# Altium integrated library Motorola Microcontroller 8-Bit.IntLib: 909 symbols (part 29 of 31)
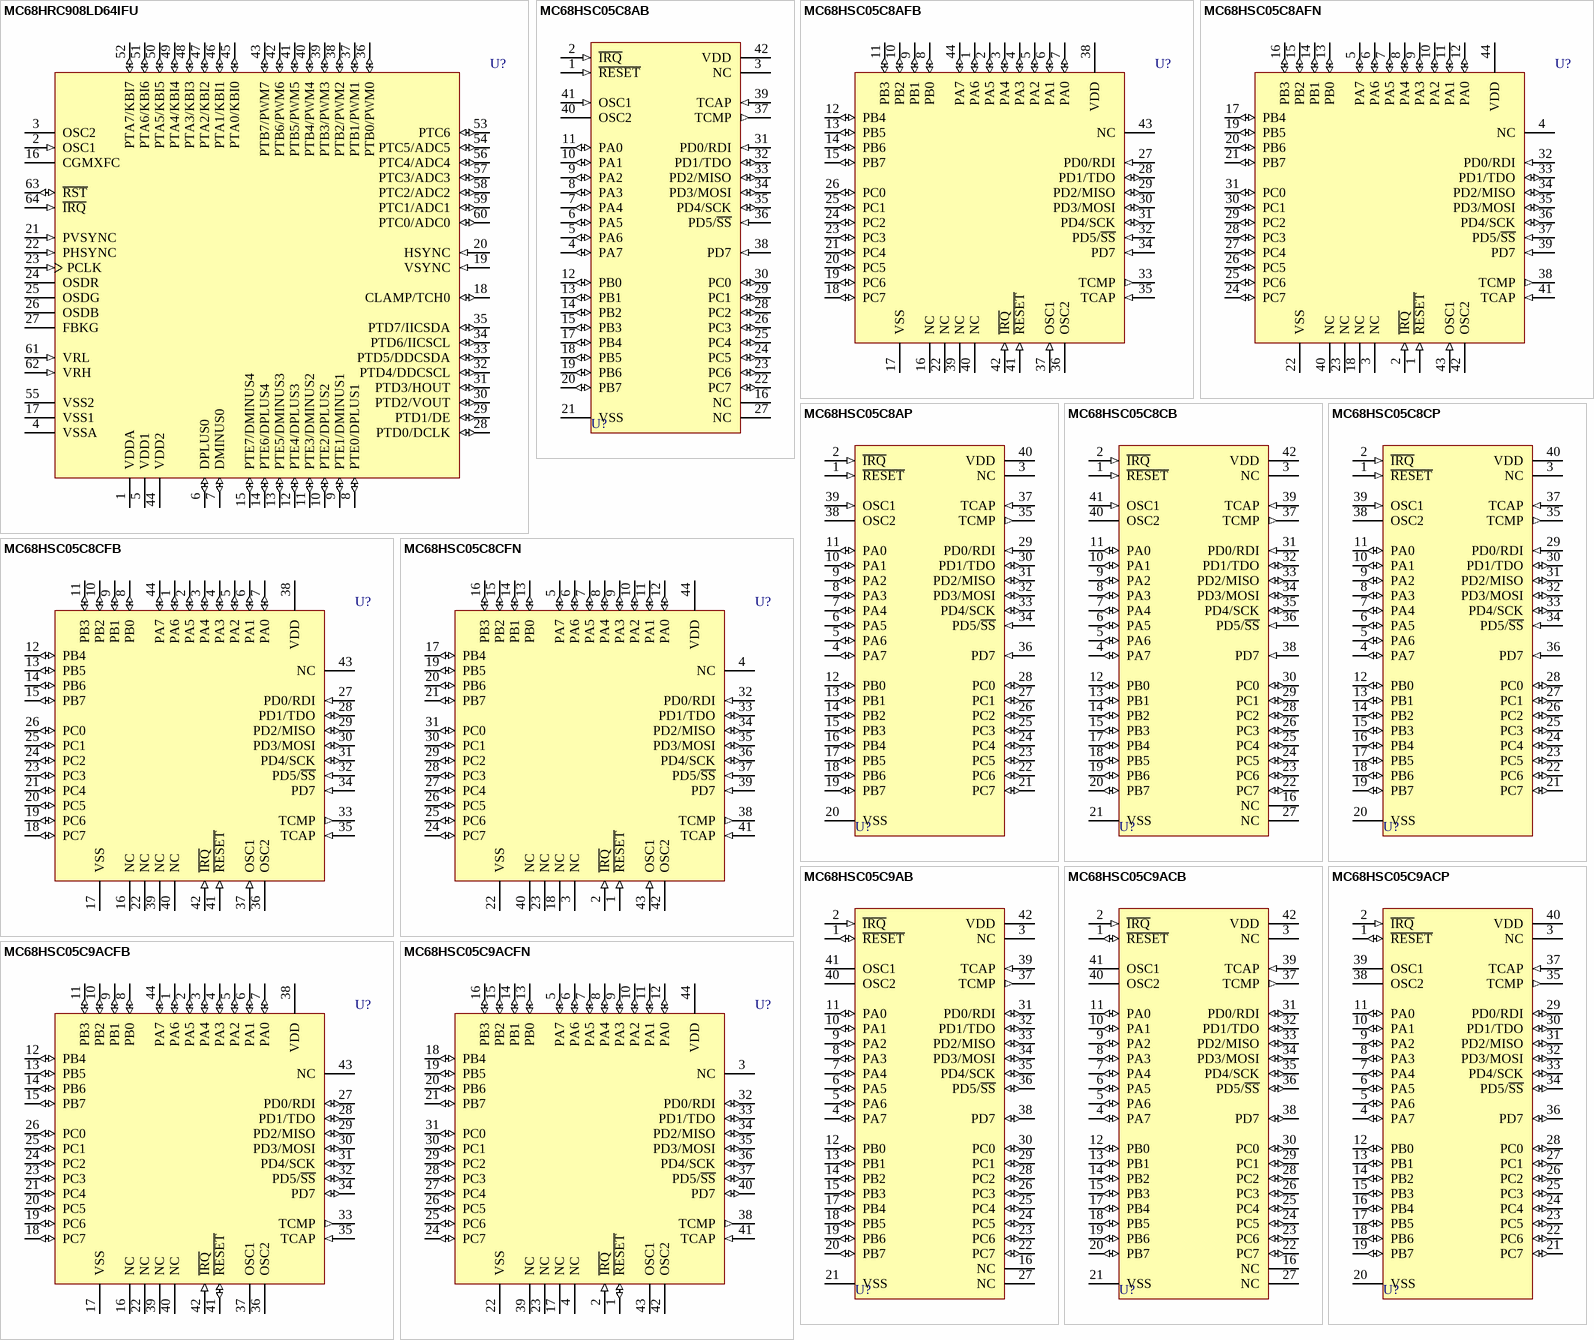
[diagram p141: symbols MC68HRC908LD64IFU to MC68HSC05C9ACP]

## MC68HSC05C9ACP
designator U?
8-Bit Microcontroller; Note: If MC68HC705C9A devices are to be used in the same socket, pin 3 should be tied to VDD.; Published: 17-Jan-2003; LatestRevisionDate: 06-Jun-2005; LatestRevisionNote: Stylized 3D Model Added.; DatasheetVersion: Rev 5, 2000; PackageReference: 711-03; Publisher: Altium Limited; PackageDescription: DIP; 40 Leads; Row Spacing 15.24 mm; Pitch 2.54 mm; ComponentLink1Description: Manufacturer Link; ComponentLink1URL: http://www.freescale.com/; ComponentLink2Description: Datasheet; ComponentLink2URL: http://www.freescale.com/files/microcontrollers/doc/data_sheet/MC68HC05C9A.pdf
footprint 711-03 (DIP; 40 Leads; Row Spacing 15.24 mm; Pitch 2.54 mm)
3D model 711-03 (DIP; 40 Leads; Row Spacing 15.24 mm; Pitch 2.54 mm)
pins: 1 ~{RESET} (io), 2 ~{IRQ} (in), 3 NC, 4 PA7 (io), 5 PA6 (io), 6 PA5 (io), 7 PA4 (io), 8 PA3 (io), 9 PA2 (io), 10 PA1 (io), 11 PA0 (io), 12 PB0 (io), 13 PB1 (io), 14 PB2 (io), 15 PB3 (io), 16 PB4 (io), 17 PB5 (io), 18 PB6 (io), 19 PB7 (io), 20 VSS (power), 21 PC7 (io), 22 PC6 (io), 23 PC5 (io), 24 PC4 (io), 25 PC3 (io), 26 PC2 (io), 27 PC1 (io), 28 PC0 (io), 29 PD0/RDI (io), 30 PD1/TDO (io), 31 PD2/MISO (io), 32 PD3/MOSI (io), 33 PD4/SCK (io), 34 PD5/~{SS} (io), 35 TCMP (out), 36 PD7 (io), 37 TCAP (in), 38 OSC2, 39 OSC1, 40 VDD (power)

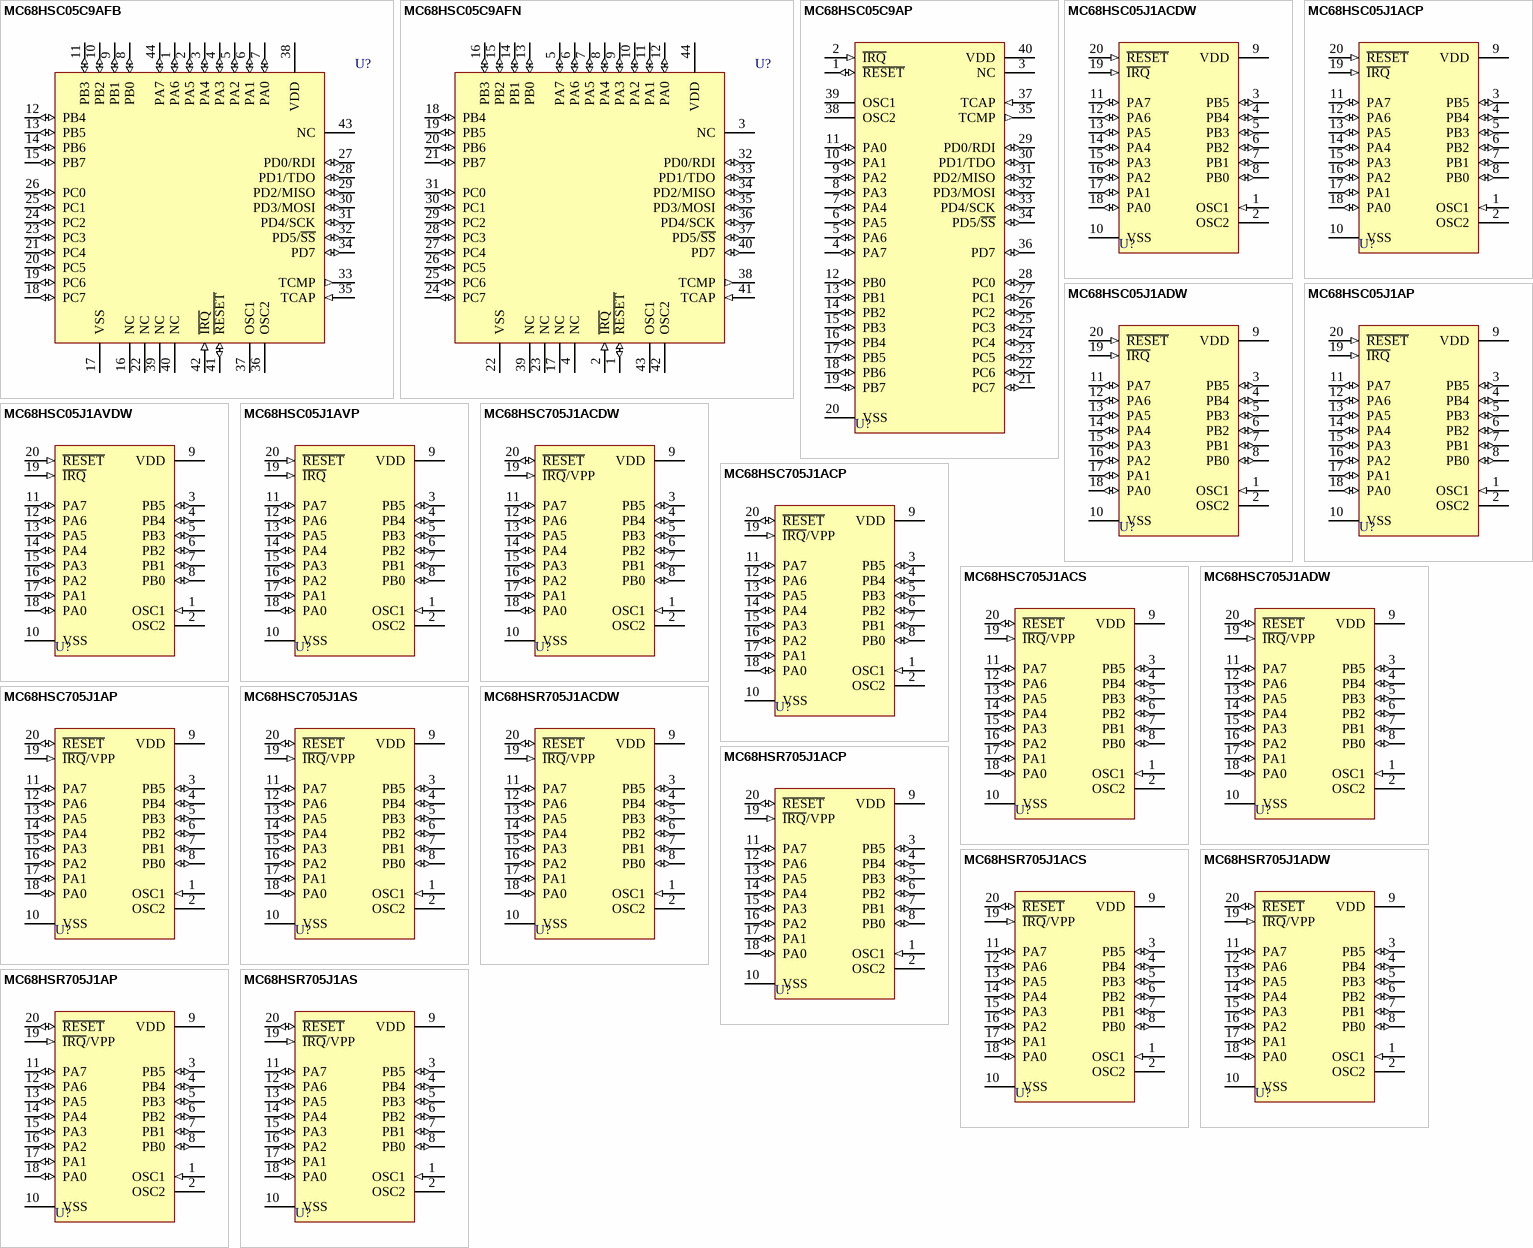
[diagram p102: symbols MC68HSC05C9AFB to MC68HSR705J1AS]

## MC68HSC05C9AFB
designator U?
8-Bit Microcontroller; Note: If MC68HC705C9A devices are to be used in the same socket, pin 43 should be tied to VDD.; Published: 17-Jan-2003; LatestRevisionDate: 13-Apr-2006; LatestRevisionNote: IPC-7351 Footprint Added.; DatasheetVersion: Rev 5, 2000; PackageVersion: rev5, Apr-2002; PackageReference: 824A-01; Publisher: Altium Limited; PackageDescription: 44-Pin Quad Flat Pack 0.8 mm Pitch; Code_JEDEC: MS-022-AB; Code_IPC: QFP80P1320X1320-44; ComponentLink1Description: Manufacturer Link; ComponentLink1URL: http://www.freescale.com/; ComponentLink2Description: Datasheet; ComponentLink2URL: http://www.freescale.com/files/microcontrollers/doc/data_sheet/MC68HC05C9A.pdf
footprint 824A-01_N (QFP, 44-Leads, Body 10x10mm, Pitch 0.8mm, IPC Medium Density)
footprint 824A-01_L (QFP, 44-Leads, Body 10x10mm, Pitch 0.8mm, IPC High Density)
footprint 824A-01_M (QFP, 44-Leads, Body 10x10mm, Pitch 0.8mm, IPC Low Density)
3D model MC68HSC05-824A-01 (44-Pin Quad Flat Pack 0.8 mm Pitch)
pins: 1 PA6 (io), 2 PA5 (io), 3 PA4 (io), 4 PA3 (io), 5 PA2 (io), 6 PA1 (io), 7 PA0 (io), 8 PB0 (io), 9 PB1 (io), 10 PB2 (io), 11 PB3 (io), 12 PB4 (io), 13 PB5 (io), 14 PB6 (io), 15 PB7 (io), 16 NC, 17 VSS (power), 18 PC7 (io), 19 PC6 (io), 20 PC5 (io), 21 PC4 (io), 22 NC, 23 PC3 (io), 24 PC2 (io), 25 PC1 (io), 26 PC0 (io), 27 PD0/RDI (io), 28 PD1/TDO (io), 29 PD2/MISO (io), 30 PD3/MOSI (io), 31 PD4/SCK (io), 32 PD5/~{SS} (io), 33 TCMP (out), 34 PD7 (io), 35 TCAP (in), 36 OSC2, 37 OSC1, 38 VDD (power), 39 NC, 40 NC, 41 ~{RESET} (io), 42 ~{IRQ} (in), 43 NC, 44 PA7 (io)

## MC68HSC05C9AFN
designator U?
8-Bit Microcontroller; Note: If MC68HC705C9A devices are to be used in the same socket, pin 3 should be tied to VDD.; Note: For compatibility with MC68HC05C4A/C8A/C12A devices in 44-pin PLCC, tie pins 17 & 18 together, and tie pins 39 & 40 together.; Note: For compatibility with MC68HC705C8A 44-pin PLCC device, 3 sets of pins should be tied together - pins 17 & 18, 39 & 40, and pins 3, 4, & 44.; Published: 17-Jan-2003; LatestRevisionDate: 13-Apr-2006; LatestRevisionNote: IPC-7351 Footprint Added.; DatasheetVersion: Rev 5, 2000; PackageVersion: rev3, Feb-2002; PackageReference: 777-02; Publisher: Altium Limited; PackageDescription: 44-Pin Plastic Leaded Chip Carrier 1.27 mm Pitch; ComponentLink1Description: Manufacturer Link; ComponentLink1URL: http://www.freescale.com/; ComponentLink2Description: Datasheet; ComponentLink2URL: http://www.freescale.com/files/microcontrollers/doc/data_sheet/MC68HC05C9A.pdf
footprint 777-02_N (Leaded Chip Carrier, 44-Leads, Body 16.6x16.6mm, Pitch 1.27mm, IPC Medium Density)
footprint 777-02_L (Leaded Chip Carrier, 44-Leads, Body 16.6x16.6mm, Pitch 1.27mm, IPC High Density)
footprint 777-02_M (Leaded Chip Carrier, 44-Leads, Body 16.6x16.6mm, Pitch 1.27mm, IPC Low Density)
3D model MC68HSC05-777-02 (44-Pin Plastic Leaded Chip Carrier 1.27 mm Pitch)
pins: 1 ~{RESET} (io), 2 ~{IRQ} (in), 3 NC, 4 NC, 5 PA7 (io), 6 PA6 (io), 7 PA5 (io), 8 PA4 (io), 9 PA3 (io), 10 PA2 (io), 11 PA1 (io), 12 PA0 (io), 13 PB0 (io), 14 PB1 (io), 15 PB2 (io), 16 PB3 (io), 17 NC, 18 PB4 (io), 19 PB5 (io), 20 PB6 (io), 21 PB7 (io), 22 VSS (power), 23 NC, 24 PC7 (io), 25 PC6 (io), 26 PC5 (io), 27 PC4 (io), 28 PC3 (io), 29 PC2 (io), 30 PC1 (io), 31 PC0 (io), 32 PD0/RDI (io), 33 PD1/TDO (io), 34 PD2/MISO (io), 35 PD3/MOSI (io), 36 PD4/SCK (io), 37 PD5/~{SS} (io), 38 TCMP (out), 39 NC, 40 PD7 (io), 41 TCAP (in), 42 OSC2, 43 OSC1, 44 VDD (power)

## MC68HSC05C9AP
designator U?
8-Bit Microcontroller; Note: If MC68HC705C9A devices are to be used in the same socket, pin 3 should be tied to VDD.; Published: 17-Jan-2003; LatestRevisionDate: 06-Jun-2005; LatestRevisionNote: Stylized 3D Model Added.; DatasheetVersion: Rev 5, 2000; PackageReference: 711-03; Publisher: Altium Limited; PackageDescription: DIP; 40 Leads; Row Spacing 15.24 mm; Pitch 2.54 mm; ComponentLink1Description: Manufacturer Link; ComponentLink1URL: http://www.freescale.com/; ComponentLink2Description: Datasheet; ComponentLink2URL: http://www.freescale.com/files/microcontrollers/doc/data_sheet/MC68HC05C9A.pdf
footprint 711-03 (DIP; 40 Leads; Row Spacing 15.24 mm; Pitch 2.54 mm)
3D model 711-03 (DIP; 40 Leads; Row Spacing 15.24 mm; Pitch 2.54 mm)
pins: 1 ~{RESET} (io), 2 ~{IRQ} (in), 3 NC, 4 PA7 (io), 5 PA6 (io), 6 PA5 (io), 7 PA4 (io), 8 PA3 (io), 9 PA2 (io), 10 PA1 (io), 11 PA0 (io), 12 PB0 (io), 13 PB1 (io), 14 PB2 (io), 15 PB3 (io), 16 PB4 (io), 17 PB5 (io), 18 PB6 (io), 19 PB7 (io), 20 VSS (power), 21 PC7 (io), 22 PC6 (io), 23 PC5 (io), 24 PC4 (io), 25 PC3 (io), 26 PC2 (io), 27 PC1 (io), 28 PC0 (io), 29 PD0/RDI (io), 30 PD1/TDO (io), 31 PD2/MISO (io), 32 PD3/MOSI (io), 33 PD4/SCK (io), 34 PD5/~{SS} (io), 35 TCMP (out), 36 PD7 (io), 37 TCAP (in), 38 OSC2, 39 OSC1, 40 VDD (power)

## MC68HSC05J1ACDW
designator U?
8-Bit Microcontroller; Published: 17-Jan-2003; LatestRevisionDate: 13-Apr-2006; LatestRevisionNote: IPC-7351 Footprint Added.; DatasheetVersion: Rev 3, 4/2002; PackageReference: 751D-04; Publisher: Altium Limited; PackageDescription: 20-Pin Small Outline Integrated Circuit 1.27 mm Pitch; ComponentLink1Description: Manufacturer Link; ComponentLink1URL: http://www.freescale.com/; ComponentLink2Description: Datasheet; ComponentLink2URL: http://www.freescale.com/files/microcontrollers/doc/data_sheet/MC68HC05J1A.pdf
footprint 751D-04_N (SOIC, 20-Leads, Body 12.8x7.5mm, Pitch 1.27mm, IPC Medium Density)
footprint 751D-04_L (SOIC, 20-Leads, Body 12.8x7.5mm, Pitch 1.27mm, IPC High Density)
footprint 751D-04_M (SOIC, 20-Leads, Body 12.8x7.5mm, Pitch 1.27mm, IPC Low Density)
3D model 751D-05 (20-Pin Small Outline Integrated Circuit 1.27 mm Pitch)
pins: 1 OSC1 (in), 2 OSC2, 3 PB5 (io), 4 PB4 (io), 5 PB3 (io), 6 PB2 (io), 7 PB1 (io), 8 PB0 (io), 9 VDD (power), 10 VSS (power), 11 PA7 (io), 12 PA6 (io), 13 PA5 (io), 14 PA4 (io), 15 PA3 (io), 16 PA2 (io), 17 PA1 (io), 18 PA0 (io), 19 ~{IRQ} (in), 20 ~{RESET} (in)

## MC68HSC05J1ACP
designator U?
8-Bit Microcontroller; Published: 17-Jan-2003; LatestRevisionDate: 06-Jun-2005; LatestRevisionNote: Stylized 3D Model Added.; DatasheetVersion: Rev 3, 4/2002; PackageReference: 738-03; Publisher: Altium Limited; PackageDescription: DIP; 20 Leads; Row Spacing 7.62 mm; Pitch 2.54 mm; Code_JEDEC: MS-001-AD; ComponentLink1Description: Manufacturer Link; ComponentLink1URL: http://www.freescale.com/; ComponentLink2Description: Datasheet; ComponentLink2URL: http://www.freescale.com/files/microcontrollers/doc/data_sheet/MC68HC05J1A.pdf
footprint 738-03 (DIP; 20 Leads; Row Spacing 7.62 mm; Pitch 2.54 mm)
3D model 738-03 (DIP; 20 Leads; Row Spacing 7.62 mm; Pitch 2.54 mm)
pins: 1 OSC1 (in), 2 OSC2, 3 PB5 (io), 4 PB4 (io), 5 PB3 (io), 6 PB2 (io), 7 PB1 (io), 8 PB0 (io), 9 VDD (power), 10 VSS (power), 11 PA7 (io), 12 PA6 (io), 13 PA5 (io), 14 PA4 (io), 15 PA3 (io), 16 PA2 (io), 17 PA1 (io), 18 PA0 (io), 19 ~{IRQ} (in), 20 ~{RESET} (in)

## MC68HSC05J1ADW
designator U?
8-Bit Microcontroller; Published: 17-Jan-2003; LatestRevisionDate: 13-Apr-2006; LatestRevisionNote: IPC-7351 Footprint Added.; DatasheetVersion: Rev 3, 4/2002; PackageReference: 751D-04; Publisher: Altium Limited; PackageDescription: 20-Pin Small Outline Integrated Circuit 1.27 mm Pitch; ComponentLink1Description: Manufacturer Link; ComponentLink1URL: http://www.freescale.com/; ComponentLink2Description: Datasheet; ComponentLink2URL: http://www.freescale.com/files/microcontrollers/doc/data_sheet/MC68HC05J1A.pdf
footprint 751D-04_N (SOIC, 20-Leads, Body 12.8x7.5mm, Pitch 1.27mm, IPC Medium Density)
footprint 751D-04_L (SOIC, 20-Leads, Body 12.8x7.5mm, Pitch 1.27mm, IPC High Density)
footprint 751D-04_M (SOIC, 20-Leads, Body 12.8x7.5mm, Pitch 1.27mm, IPC Low Density)
3D model 751D-05 (20-Pin Small Outline Integrated Circuit 1.27 mm Pitch)
pins: 1 OSC1 (in), 2 OSC2, 3 PB5 (io), 4 PB4 (io), 5 PB3 (io), 6 PB2 (io), 7 PB1 (io), 8 PB0 (io), 9 VDD (power), 10 VSS (power), 11 PA7 (io), 12 PA6 (io), 13 PA5 (io), 14 PA4 (io), 15 PA3 (io), 16 PA2 (io), 17 PA1 (io), 18 PA0 (io), 19 ~{IRQ} (in), 20 ~{RESET} (in)

## MC68HSC05J1AP
designator U?
8-Bit Microcontroller; Published: 17-Jan-2003; LatestRevisionDate: 06-Jun-2005; LatestRevisionNote: Stylized 3D Model Added.; DatasheetVersion: Rev 3, 4/2002; PackageReference: 738-03; Publisher: Altium Limited; PackageDescription: DIP; 20 Leads; Row Spacing 7.62 mm; Pitch 2.54 mm; Code_JEDEC: MS-001-AD; ComponentLink1Description: Manufacturer Link; ComponentLink1URL: http://www.freescale.com/; ComponentLink2Description: Datasheet; ComponentLink2URL: http://www.freescale.com/files/microcontrollers/doc/data_sheet/MC68HC05J1A.pdf
footprint 738-03 (DIP; 20 Leads; Row Spacing 7.62 mm; Pitch 2.54 mm)
3D model 738-03 (DIP; 20 Leads; Row Spacing 7.62 mm; Pitch 2.54 mm)
pins: 1 OSC1 (in), 2 OSC2, 3 PB5 (io), 4 PB4 (io), 5 PB3 (io), 6 PB2 (io), 7 PB1 (io), 8 PB0 (io), 9 VDD (power), 10 VSS (power), 11 PA7 (io), 12 PA6 (io), 13 PA5 (io), 14 PA4 (io), 15 PA3 (io), 16 PA2 (io), 17 PA1 (io), 18 PA0 (io), 19 ~{IRQ} (in), 20 ~{RESET} (in)

## MC68HSC05J1AVDW
designator U?
8-Bit Microcontroller; Published: 17-Jan-2003; LatestRevisionDate: 13-Apr-2006; LatestRevisionNote: IPC-7351 Footprint Added.; DatasheetVersion: Rev 3, 4/2002; PackageReference: 751D-04; Publisher: Altium Limited; PackageDescription: 20-Pin Small Outline Integrated Circuit 1.27 mm Pitch; ComponentLink1Description: Manufacturer Link; ComponentLink1URL: http://www.freescale.com/; ComponentLink2Description: Datasheet; ComponentLink2URL: http://www.freescale.com/files/microcontrollers/doc/data_sheet/MC68HC05J1A.pdf
footprint 751D-04_N (SOIC, 20-Leads, Body 12.8x7.5mm, Pitch 1.27mm, IPC Medium Density)
footprint 751D-04_L (SOIC, 20-Leads, Body 12.8x7.5mm, Pitch 1.27mm, IPC High Density)
footprint 751D-04_M (SOIC, 20-Leads, Body 12.8x7.5mm, Pitch 1.27mm, IPC Low Density)
3D model 751D-05 (20-Pin Small Outline Integrated Circuit 1.27 mm Pitch)
pins: 1 OSC1 (in), 2 OSC2, 3 PB5 (io), 4 PB4 (io), 5 PB3 (io), 6 PB2 (io), 7 PB1 (io), 8 PB0 (io), 9 VDD (power), 10 VSS (power), 11 PA7 (io), 12 PA6 (io), 13 PA5 (io), 14 PA4 (io), 15 PA3 (io), 16 PA2 (io), 17 PA1 (io), 18 PA0 (io), 19 ~{IRQ} (in), 20 ~{RESET} (in)

## MC68HSC05J1AVP
designator U?
8-Bit Microcontroller; Published: 17-Jan-2003; LatestRevisionDate: 06-Jun-2005; LatestRevisionNote: Stylized 3D Model Added.; DatasheetVersion: Rev 3, 4/2002; PackageReference: 738-03; Publisher: Altium Limited; PackageDescription: DIP; 20 Leads; Row Spacing 7.62 mm; Pitch 2.54 mm; Code_JEDEC: MS-001-AD; ComponentLink1Description: Manufacturer Link; ComponentLink1URL: http://www.freescale.com/; ComponentLink2Description: Datasheet; ComponentLink2URL: http://www.freescale.com/files/microcontrollers/doc/data_sheet/MC68HC05J1A.pdf
footprint 738-03 (DIP; 20 Leads; Row Spacing 7.62 mm; Pitch 2.54 mm)
3D model 738-03 (DIP; 20 Leads; Row Spacing 7.62 mm; Pitch 2.54 mm)
pins: 1 OSC1 (in), 2 OSC2, 3 PB5 (io), 4 PB4 (io), 5 PB3 (io), 6 PB2 (io), 7 PB1 (io), 8 PB0 (io), 9 VDD (power), 10 VSS (power), 11 PA7 (io), 12 PA6 (io), 13 PA5 (io), 14 PA4 (io), 15 PA3 (io), 16 PA2 (io), 17 PA1 (io), 18 PA0 (io), 19 ~{IRQ} (in), 20 ~{RESET} (in)

## MC68HSC705J1ACDW
designator U?
8-Bit Microcontroller; Published: 17-Jan-2003; LatestRevisionDate: 13-Apr-2006; LatestRevisionNote: IPC-7351 Footprint Added.; DatasheetVersion: Rev 4, 5/2002; PackageReference: 751D-04; Publisher: Altium Limited; PackageDescription: 20-Pin Small Outline Integrated Circuit 1.27 mm Pitch; ComponentLink1Description: Manufacturer Link; ComponentLink1URL: http://www.freescale.com/; ComponentLink2Description: Datasheet; ComponentLink2URL: http://www.freescale.com/files/microcontrollers/doc/data_sheet/MC68HC705J1A.pdf
footprint 751D-04_N (SOIC, 20-Leads, Body 12.8x7.5mm, Pitch 1.27mm, IPC Medium Density)
footprint 751D-04_L (SOIC, 20-Leads, Body 12.8x7.5mm, Pitch 1.27mm, IPC High Density)
footprint 751D-04_M (SOIC, 20-Leads, Body 12.8x7.5mm, Pitch 1.27mm, IPC Low Density)
3D model 751D-05 (20-Pin Small Outline Integrated Circuit 1.27 mm Pitch)
pins: 1 OSC1 (in), 2 OSC2, 3 PB5 (io), 4 PB4 (io), 5 PB3 (io), 6 PB2 (io), 7 PB1 (io), 8 PB0 (io), 9 VDD (power), 10 VSS (power), 11 PA7 (io), 12 PA6 (io), 13 PA5 (io), 14 PA4 (io), 15 PA3 (io), 16 PA2 (io), 17 PA1 (io), 18 PA0 (io), 19 ~{IRQ}/VPP (in), 20 ~{RESET} (io)

## MC68HSC705J1ACP
designator U?
8-Bit Microcontroller; Published: 17-Jan-2003; LatestRevisionDate: 06-Jun-2005; LatestRevisionNote: Stylized 3D Model Added.; DatasheetVersion: Rev 4, 5/2002; PackageReference: 738-03; Publisher: Altium Limited; PackageDescription: DIP; 20 Leads; Row Spacing 7.62 mm; Pitch 2.54 mm; Code_JEDEC: MS-001-AD; ComponentLink1Description: Manufacturer Link; ComponentLink1URL: http://www.freescale.com/; ComponentLink2Description: Datasheet; ComponentLink2URL: http://www.freescale.com/files/microcontrollers/doc/data_sheet/MC68HC705J1A.pdf
footprint 738-03 (DIP; 20 Leads; Row Spacing 7.62 mm; Pitch 2.54 mm)
3D model 738-03 (DIP; 20 Leads; Row Spacing 7.62 mm; Pitch 2.54 mm)
pins: 1 OSC1 (in), 2 OSC2, 3 PB5 (io), 4 PB4 (io), 5 PB3 (io), 6 PB2 (io), 7 PB1 (io), 8 PB0 (io), 9 VDD (power), 10 VSS (power), 11 PA7 (io), 12 PA6 (io), 13 PA5 (io), 14 PA4 (io), 15 PA3 (io), 16 PA2 (io), 17 PA1 (io), 18 PA0 (io), 19 ~{IRQ}/VPP (in), 20 ~{RESET} (io)

## MC68HSC705J1ACS
designator U?
8-Bit Microcontroller; Published: 17-Jan-2003; LatestRevisionDate: 06-Jun-2005; LatestRevisionNote: Stylized 3D Model Added.; DatasheetVersion: Rev 4, 5/2002; PackageReference: 732-03; Publisher: Altium Limited; PackageDescription: DIP; 20 Leads; Row Spacing 7.62 mm; Pitch 2.54 mm; Code_JEDEC: MS-015-AE; ComponentLink1Description: Manufacturer Link; ComponentLink1URL: http://www.freescale.com/; ComponentLink2Description: Datasheet; ComponentLink2URL: http://www.freescale.com/files/microcontrollers/doc/data_sheet/MC68HC705J1A.pdf
footprint 732-03 (DIP; 20 Leads; Row Spacing 7.62 mm; Pitch 2.54 mm)
3D model 732-03 (DIP; 20 Leads; Row Spacing 7.62 mm; Pitch 2.54 mm)
pins: 1 OSC1 (in), 2 OSC2, 3 PB5 (io), 4 PB4 (io), 5 PB3 (io), 6 PB2 (io), 7 PB1 (io), 8 PB0 (io), 9 VDD (power), 10 VSS (power), 11 PA7 (io), 12 PA6 (io), 13 PA5 (io), 14 PA4 (io), 15 PA3 (io), 16 PA2 (io), 17 PA1 (io), 18 PA0 (io), 19 ~{IRQ}/VPP (in), 20 ~{RESET} (io)

## MC68HSC705J1ADW
designator U?
8-Bit Microcontroller; Published: 17-Jan-2003; LatestRevisionDate: 13-Apr-2006; LatestRevisionNote: IPC-7351 Footprint Added.; DatasheetVersion: Rev 4, 5/2002; PackageReference: 751D-04; Publisher: Altium Limited; PackageDescription: 20-Pin Small Outline Integrated Circuit 1.27 mm Pitch; ComponentLink1Description: Manufacturer Link; ComponentLink1URL: http://www.freescale.com/; ComponentLink2Description: Datasheet; ComponentLink2URL: http://www.freescale.com/files/microcontrollers/doc/data_sheet/MC68HC705J1A.pdf
footprint 751D-04_N (SOIC, 20-Leads, Body 12.8x7.5mm, Pitch 1.27mm, IPC Medium Density)
footprint 751D-04_L (SOIC, 20-Leads, Body 12.8x7.5mm, Pitch 1.27mm, IPC High Density)
footprint 751D-04_M (SOIC, 20-Leads, Body 12.8x7.5mm, Pitch 1.27mm, IPC Low Density)
3D model 751D-05 (20-Pin Small Outline Integrated Circuit 1.27 mm Pitch)
pins: 1 OSC1 (in), 2 OSC2, 3 PB5 (io), 4 PB4 (io), 5 PB3 (io), 6 PB2 (io), 7 PB1 (io), 8 PB0 (io), 9 VDD (power), 10 VSS (power), 11 PA7 (io), 12 PA6 (io), 13 PA5 (io), 14 PA4 (io), 15 PA3 (io), 16 PA2 (io), 17 PA1 (io), 18 PA0 (io), 19 ~{IRQ}/VPP (in), 20 ~{RESET} (io)

## MC68HSC705J1AP
designator U?
8-Bit Microcontroller; Published: 17-Jan-2003; LatestRevisionDate: 06-Jun-2005; LatestRevisionNote: Stylized 3D Model Added.; DatasheetVersion: Rev 4, 5/2002; PackageReference: 738-03; Publisher: Altium Limited; PackageDescription: DIP; 20 Leads; Row Spacing 7.62 mm; Pitch 2.54 mm; Code_JEDEC: MS-001-AD; ComponentLink1Description: Manufacturer Link; ComponentLink1URL: http://www.freescale.com/; ComponentLink2Description: Datasheet; ComponentLink2URL: http://www.freescale.com/files/microcontrollers/doc/data_sheet/MC68HC705J1A.pdf
footprint 738-03 (DIP; 20 Leads; Row Spacing 7.62 mm; Pitch 2.54 mm)
3D model 738-03 (DIP; 20 Leads; Row Spacing 7.62 mm; Pitch 2.54 mm)
pins: 1 OSC1 (in), 2 OSC2, 3 PB5 (io), 4 PB4 (io), 5 PB3 (io), 6 PB2 (io), 7 PB1 (io), 8 PB0 (io), 9 VDD (power), 10 VSS (power), 11 PA7 (io), 12 PA6 (io), 13 PA5 (io), 14 PA4 (io), 15 PA3 (io), 16 PA2 (io), 17 PA1 (io), 18 PA0 (io), 19 ~{IRQ}/VPP (in), 20 ~{RESET} (io)

## MC68HSC705J1AS
designator U?
8-Bit Microcontroller; Published: 17-Jan-2003; LatestRevisionDate: 06-Jun-2005; LatestRevisionNote: Stylized 3D Model Added.; DatasheetVersion: Rev 4, 5/2002; PackageReference: 732-03; Publisher: Altium Limited; PackageDescription: DIP; 20 Leads; Row Spacing 7.62 mm; Pitch 2.54 mm; Code_JEDEC: MS-015-AE; ComponentLink1Description: Manufacturer Link; ComponentLink1URL: http://www.freescale.com/; ComponentLink2Description: Datasheet; ComponentLink2URL: http://www.freescale.com/files/microcontrollers/doc/data_sheet/MC68HC705J1A.pdf
footprint 732-03 (DIP; 20 Leads; Row Spacing 7.62 mm; Pitch 2.54 mm)
3D model 732-03 (DIP; 20 Leads; Row Spacing 7.62 mm; Pitch 2.54 mm)
pins: 1 OSC1 (in), 2 OSC2, 3 PB5 (io), 4 PB4 (io), 5 PB3 (io), 6 PB2 (io), 7 PB1 (io), 8 PB0 (io), 9 VDD (power), 10 VSS (power), 11 PA7 (io), 12 PA6 (io), 13 PA5 (io), 14 PA4 (io), 15 PA3 (io), 16 PA2 (io), 17 PA1 (io), 18 PA0 (io), 19 ~{IRQ}/VPP (in), 20 ~{RESET} (io)

## MC68HSR705J1ACDW
designator U?
8-Bit Microcontroller; Published: 17-Jan-2003; LatestRevisionDate: 13-Apr-2006; LatestRevisionNote: IPC-7351 Footprint Added.; DatasheetVersion: Rev 4, 5/2002; PackageReference: 751D-04; Publisher: Altium Limited; PackageDescription: 20-Pin Small Outline Integrated Circuit 1.27 mm Pitch; ComponentLink1Description: Manufacturer Link; ComponentLink1URL: http://www.freescale.com/; ComponentLink2Description: Datasheet; ComponentLink2URL: http://www.freescale.com/files/microcontrollers/doc/data_sheet/MC68HC705J1A.pdf
footprint 751D-04_N (SOIC, 20-Leads, Body 12.8x7.5mm, Pitch 1.27mm, IPC Medium Density)
footprint 751D-04_L (SOIC, 20-Leads, Body 12.8x7.5mm, Pitch 1.27mm, IPC High Density)
footprint 751D-04_M (SOIC, 20-Leads, Body 12.8x7.5mm, Pitch 1.27mm, IPC Low Density)
3D model 751D-05 (20-Pin Small Outline Integrated Circuit 1.27 mm Pitch)
pins: 1 OSC1 (in), 2 OSC2, 3 PB5 (io), 4 PB4 (io), 5 PB3 (io), 6 PB2 (io), 7 PB1 (io), 8 PB0 (io), 9 VDD (power), 10 VSS (power), 11 PA7 (io), 12 PA6 (io), 13 PA5 (io), 14 PA4 (io), 15 PA3 (io), 16 PA2 (io), 17 PA1 (io), 18 PA0 (io), 19 ~{IRQ}/VPP (in), 20 ~{RESET} (io)

## MC68HSR705J1ACP
designator U?
8-Bit Microcontroller; Published: 17-Jan-2003; LatestRevisionDate: 06-Jun-2005; LatestRevisionNote: Stylized 3D Model Added.; DatasheetVersion: Rev 4, 5/2002; PackageReference: 738-03; Publisher: Altium Limited; PackageDescription: DIP; 20 Leads; Row Spacing 7.62 mm; Pitch 2.54 mm; Code_JEDEC: MS-001-AD; ComponentLink1Description: Manufacturer Link; ComponentLink1URL: http://www.freescale.com/; ComponentLink2Description: Datasheet; ComponentLink2URL: http://www.freescale.com/files/microcontrollers/doc/data_sheet/MC68HC705J1A.pdf
footprint 738-03 (DIP; 20 Leads; Row Spacing 7.62 mm; Pitch 2.54 mm)
3D model 738-03 (DIP; 20 Leads; Row Spacing 7.62 mm; Pitch 2.54 mm)
pins: 1 OSC1 (in), 2 OSC2, 3 PB5 (io), 4 PB4 (io), 5 PB3 (io), 6 PB2 (io), 7 PB1 (io), 8 PB0 (io), 9 VDD (power), 10 VSS (power), 11 PA7 (io), 12 PA6 (io), 13 PA5 (io), 14 PA4 (io), 15 PA3 (io), 16 PA2 (io), 17 PA1 (io), 18 PA0 (io), 19 ~{IRQ}/VPP (in), 20 ~{RESET} (io)

## MC68HSR705J1ACS
designator U?
8-Bit Microcontroller; Published: 17-Jan-2003; LatestRevisionDate: 06-Jun-2005; LatestRevisionNote: Stylized 3D Model Added.; DatasheetVersion: Rev 4, 5/2002; PackageReference: 732-03; Publisher: Altium Limited; PackageDescription: DIP; 20 Leads; Row Spacing 7.62 mm; Pitch 2.54 mm; Code_JEDEC: MS-015-AE; ComponentLink1Description: Manufacturer Link; ComponentLink1URL: http://www.freescale.com/; ComponentLink2Description: Datasheet; ComponentLink2URL: http://www.freescale.com/files/microcontrollers/doc/data_sheet/MC68HC705J1A.pdf
footprint 732-03 (DIP; 20 Leads; Row Spacing 7.62 mm; Pitch 2.54 mm)
3D model 732-03 (DIP; 20 Leads; Row Spacing 7.62 mm; Pitch 2.54 mm)
pins: 1 OSC1 (in), 2 OSC2, 3 PB5 (io), 4 PB4 (io), 5 PB3 (io), 6 PB2 (io), 7 PB1 (io), 8 PB0 (io), 9 VDD (power), 10 VSS (power), 11 PA7 (io), 12 PA6 (io), 13 PA5 (io), 14 PA4 (io), 15 PA3 (io), 16 PA2 (io), 17 PA1 (io), 18 PA0 (io), 19 ~{IRQ}/VPP (in), 20 ~{RESET} (io)

## MC68HSR705J1ADW
designator U?
8-Bit Microcontroller; Published: 17-Jan-2003; LatestRevisionDate: 13-Apr-2006; LatestRevisionNote: IPC-7351 Footprint Added.; DatasheetVersion: Rev 4, 5/2002; PackageReference: 751D-04; Publisher: Altium Limited; PackageDescription: 20-Pin Small Outline Integrated Circuit 1.27 mm Pitch; ComponentLink1Description: Manufacturer Link; ComponentLink1URL: http://www.freescale.com/; ComponentLink2Description: Datasheet; ComponentLink2URL: http://www.freescale.com/files/microcontrollers/doc/data_sheet/MC68HC705J1A.pdf
footprint 751D-04_N (SOIC, 20-Leads, Body 12.8x7.5mm, Pitch 1.27mm, IPC Medium Density)
footprint 751D-04_L (SOIC, 20-Leads, Body 12.8x7.5mm, Pitch 1.27mm, IPC High Density)
footprint 751D-04_M (SOIC, 20-Leads, Body 12.8x7.5mm, Pitch 1.27mm, IPC Low Density)
3D model 751D-05 (20-Pin Small Outline Integrated Circuit 1.27 mm Pitch)
pins: 1 OSC1 (in), 2 OSC2, 3 PB5 (io), 4 PB4 (io), 5 PB3 (io), 6 PB2 (io), 7 PB1 (io), 8 PB0 (io), 9 VDD (power), 10 VSS (power), 11 PA7 (io), 12 PA6 (io), 13 PA5 (io), 14 PA4 (io), 15 PA3 (io), 16 PA2 (io), 17 PA1 (io), 18 PA0 (io), 19 ~{IRQ}/VPP (in), 20 ~{RESET} (io)

## MC68HSR705J1AP
designator U?
8-Bit Microcontroller; Published: 17-Jan-2003; LatestRevisionDate: 06-Jun-2005; LatestRevisionNote: Stylized 3D Model Added.; DatasheetVersion: Rev 4, 5/2002; PackageReference: 738-03; Publisher: Altium Limited; PackageDescription: DIP; 20 Leads; Row Spacing 7.62 mm; Pitch 2.54 mm; Code_JEDEC: MS-001-AD; ComponentLink1Description: Manufacturer Link; ComponentLink1URL: http://www.freescale.com/; ComponentLink2Description: Datasheet; ComponentLink2URL: http://www.freescale.com/files/microcontrollers/doc/data_sheet/MC68HC705J1A.pdf
footprint 738-03 (DIP; 20 Leads; Row Spacing 7.62 mm; Pitch 2.54 mm)
3D model 738-03 (DIP; 20 Leads; Row Spacing 7.62 mm; Pitch 2.54 mm)
pins: 1 OSC1 (in), 2 OSC2, 3 PB5 (io), 4 PB4 (io), 5 PB3 (io), 6 PB2 (io), 7 PB1 (io), 8 PB0 (io), 9 VDD (power), 10 VSS (power), 11 PA7 (io), 12 PA6 (io), 13 PA5 (io), 14 PA4 (io), 15 PA3 (io), 16 PA2 (io), 17 PA1 (io), 18 PA0 (io), 19 ~{IRQ}/VPP (in), 20 ~{RESET} (io)

## MC68HSR705J1AS
designator U?
8-Bit Microcontroller; Published: 17-Jan-2003; LatestRevisionDate: 06-Jun-2005; LatestRevisionNote: Stylized 3D Model Added.; DatasheetVersion: Rev 4, 5/2002; PackageReference: 732-03; Publisher: Altium Limited; PackageDescription: DIP; 20 Leads; Row Spacing 7.62 mm; Pitch 2.54 mm; Code_JEDEC: MS-015-AE; ComponentLink1Description: Manufacturer Link; ComponentLink1URL: http://www.freescale.com/; ComponentLink2Description: Datasheet; ComponentLink2URL: http://www.freescale.com/files/microcontrollers/doc/data_sheet/MC68HC705J1A.pdf
footprint 732-03 (DIP; 20 Leads; Row Spacing 7.62 mm; Pitch 2.54 mm)
3D model 732-03 (DIP; 20 Leads; Row Spacing 7.62 mm; Pitch 2.54 mm)
pins: 1 OSC1 (in), 2 OSC2, 3 PB5 (io), 4 PB4 (io), 5 PB3 (io), 6 PB2 (io), 7 PB1 (io), 8 PB0 (io), 9 VDD (power), 10 VSS (power), 11 PA7 (io), 12 PA6 (io), 13 PA5 (io), 14 PA4 (io), 15 PA3 (io), 16 PA2 (io), 17 PA1 (io), 18 PA0 (io), 19 ~{IRQ}/VPP (in), 20 ~{RESET} (io)

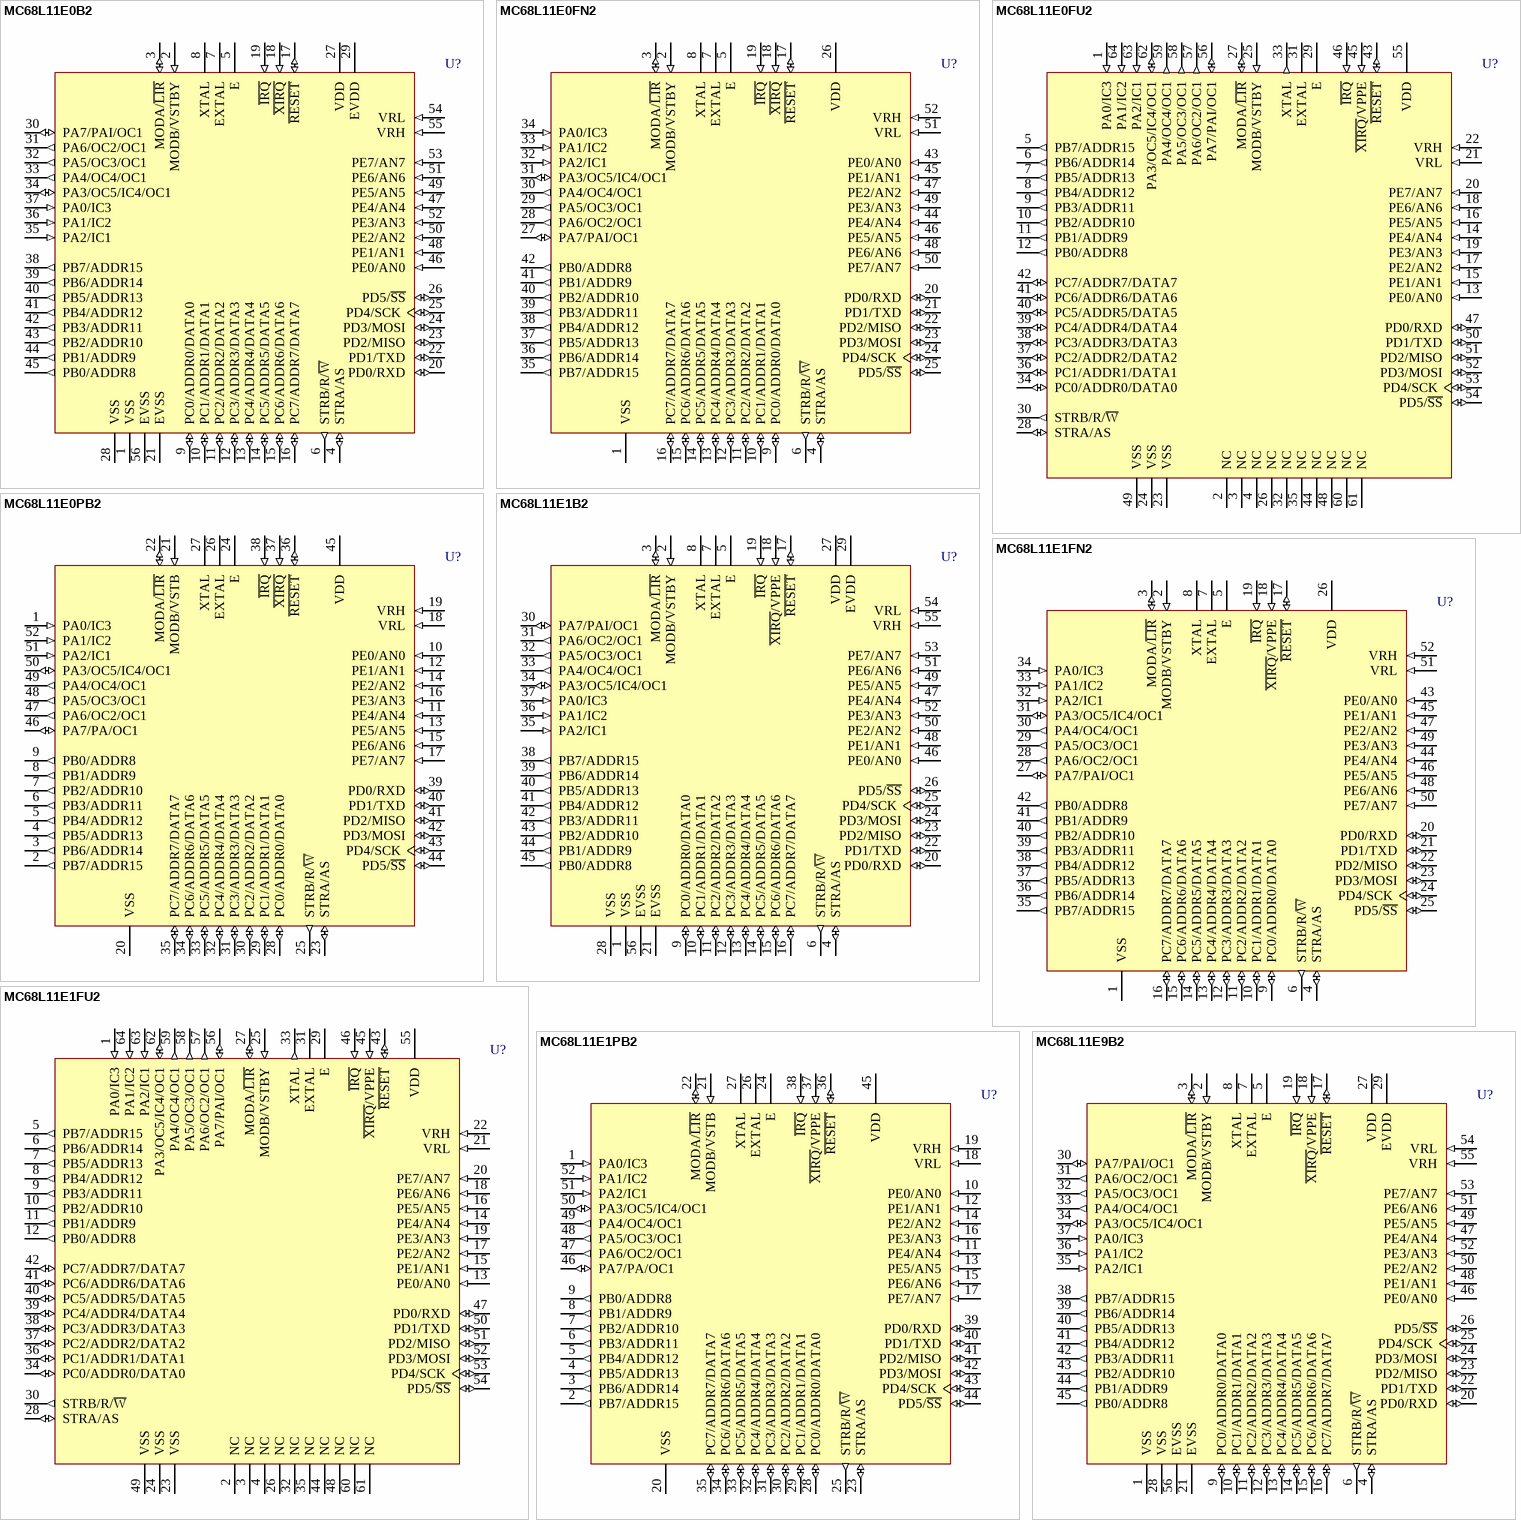
[diagram p103: symbols MC68L11E0B2 to MC68L11E9B2]

## MC68L11E0B2
designator U?
8-Bit Microcontroller; Published: 17-Jan-2003; LatestRevisionDate: 06-Jun-2005; LatestRevisionNote: Stylized 3D Model Added.; DatasheetVersion: 25-Jul-2002; PackageVersion: rev4, Jul-2002; PackageReference: 859; Publisher: Altium Limited; PackageDescription: DIP; 56 Leads; Row Spacing 15.24 mm; Pitch 1.778 mm; ComponentLink1Description: Manufacturer Link; ComponentLink1URL: http://www.freescale.com/; ComponentLink2Description: Datasheet; ComponentLink2URL: http://www.freescale.com/files/microcontrollers/doc/data_sheet/M68HC11E.pdf
footprint 859 (DIP; 56 Leads; Row Spacing 15.24 mm; Pitch 1.778 mm)
3D model 859-01 (DIP; 56 Leads; Row Spacing 15.24 mm; Pitch 1.778 mm)
pins: 1 VSS (power), 2 MODB/VSTBY (in), 3 MODA/~{LIR} (io), 4 STRA/AS (io), 5 E, 6 STRB/R/~{W} (out), 7 EXTAL, 8 XTAL, 9 PC0/ADDR0/DATA0 (io), 10 PC1/ADDR1/DATA1 (io), 11 PC2/ADDR2/DATA2 (io), 12 PC3/ADDR3/DATA3 (io), 13 PC4/ADDR4/DATA4 (io), 14 PC5/ADDR5/DATA5 (io), 15 PC6/ADDR6/DATA6 (io), 16 PC7/ADDR7/DATA7 (io), 17 ~{RESET} (io), 18 ~{XIRQ} (in), 19 ~{IRQ} (in), 20 PD0/RXD (io), 21 EVSS (power), 22 PD1/TXD (io), 23 PD2/MISO (io), 24 PD3/MOSI (io), 25 PD4/SCK (io), 26 PD5/~{SS} (io), 27 VDD (power), 28 VSS (power), 29 EVDD (power), 30 PA7/PAI/OC1 (io), 31 PA6/OC2/OC1 (out), 32 PA5/OC3/OC1 (out), 33 PA4/OC4/OC1 (out), 34 PA3/OC5/IC4/OC1 (io), 35 PA2/IC1 (in), 36 PA1/IC2 (in), 37 PA0/IC3 (in), 38 PB7/ADDR15 (out), 39 PB6/ADDR14 (out), 40 PB5/ADDR13 (out), 41 PB4/ADDR12 (out), 42 PB3/ADDR11 (out), 43 PB2/ADDR10 (out), 44 PB1/ADDR9 (out), 45 PB0/ADDR8 (out), 46 PE0/AN0 (in), 47 PE4/AN4 (in), 48 PE1/AN1 (in), 49 PE5/AN5 (in), 50 PE2/AN2 (in), 51 PE6/AN6 (in), 52 PE3/AN3 (in), 53 PE7/AN7 (in), 54 VRL (in), 55 VRH (in), 56 EVSS (power)

## MC68L11E0FN2
designator U?
8-Bit Microcontroller; Published: 17-Jan-2003; LatestRevisionDate: 13-Apr-2006; LatestRevisionNote: IPC-7351 Footprint Added.; DatasheetVersion: 25-Jul-2002; PackageVersion: rev3, 1997; PackageReference: 778-02; Publisher: Altium Limited; PackageDescription: 52-Pin Plastic Leaded Chip Carrier 1.27 mm Pitch; ComponentLink1Description: Manufacturer Link; ComponentLink1URL: http://www.freescale.com/; ComponentLink2Description: Datasheet; ComponentLink2URL: http://www.freescale.com/files/microcontrollers/doc/data_sheet/M68HC11E.pdf
footprint 778-02_N (Leaded Chip Carrier, 52-Leads, Body 19x19mm, Pitch 1.27mm, IPC Medium Density)
footprint 778-02_L (Leaded Chip Carrier, 52-Leads, Body 19x19mm, Pitch 1.27mm, IPC High Density)
footprint 778-02_M (Leaded Chip Carrier, 52-Leads, Body 19x19mm, Pitch 1.27mm, IPC Low Density)
3D model MC68L11-778-02 (52-Pin Plastic Leaded Chip Carrier 1.27 mm Pitch)
pins: 1 VSS (power), 2 MODB/VSTBY (in), 3 MODA/~{LIR} (io), 4 STRA/AS (io), 5 E, 6 STRB/R/~{W} (out), 7 EXTAL, 8 XTAL, 9 PC0/ADDR0/DATA0 (io), 10 PC1/ADDR1/DATA1 (io), 11 PC2/ADDR2/DATA2 (io), 12 PC3/ADDR3/DATA3 (io), 13 PC4/ADDR4/DATA4 (io), 14 PC5/ADDR5/DATA5 (io), 15 PC6/ADDR6/DATA6 (io), 16 PC7/ADDR7/DATA7 (io), 17 ~{RESET} (io), 18 ~{XIRQ} (in), 19 ~{IRQ} (in), 20 PD0/RXD (io), 21 PD1/TXD (io), 22 PD2/MISO (io), 23 PD3/MOSI (io), 24 PD4/SCK (io), 25 PD5/~{SS} (io), 26 VDD (power), 27 PA7/PAI/OC1 (io), 28 PA6/OC2/OC1 (out), 29 PA5/OC3/OC1 (out), 30 PA4/OC4/OC1 (out), 31 PA3/OC5/IC4/OC1 (io), 32 PA2/IC1 (in), 33 PA1/IC2 (in), 34 PA0/IC3 (in), 35 PB7/ADDR15 (out), 36 PB6/ADDR14 (out), 37 PB5/ADDR13 (out), 38 PB4/ADDR12 (out), 39 PB3/ADDR11 (out), 40 PB2/ADDR10 (out), 41 PB1/ADDR9 (out), 42 PB0/ADDR8 (out), 43 PE0/AN0 (in), 44 PE4/AN4 (in), 45 PE1/AN1 (in), 46 PE5/AN5 (in), 47 PE2/AN2 (in), 48 PE6/AN6 (in), 49 PE3/AN3 (in), 50 PE7/AN7 (in), 51 VRL (in), 52 VRH (in)

## MC68L11E0FU2
designator U?
8-Bit Microcontroller; Published: 17-Jan-2003; LatestRevisionDate: 13-Apr-2006; LatestRevisionNote: IPC-7351 Footprint Added.; DatasheetVersion: 25-Jul-2002; PackageVersion: rev4, Jul-2002; PackageReference: 840C; Publisher: Altium Limited; PackageDescription: 64-Pin Quad Flat Pack 0.8 mm Pitch; ComponentLink1Description: Manufacturer Link; ComponentLink1URL: http://www.freescale.com/; ComponentLink2Description: Datasheet; ComponentLink2URL: http://www.freescale.com/files/microcontrollers/doc/data_sheet/M68HC11E.pdf
footprint 840C_N (QFP, 64-Leads, Body 14x14mm, Pitch 0.8mm, IPC Medium Density)
footprint 840C_L (QFP, 64-Leads, Body 14x14mm, Pitch 0.8mm, IPC High Density)
footprint 840C_M (QFP, 64-Leads, Body 14x14mm, Pitch 0.8mm, IPC Low Density)
3D model MC68L11-840C (64-Pin Quad Flat Pack 0.8 mm Pitch)
pins: 1 PA0/IC3 (in), 2 NC, 3 NC, 4 NC, 5 PB7/ADDR15 (out), 6 PB6/ADDR14 (out), 7 PB5/ADDR13 (out), 8 PB4/ADDR12 (out), 9 PB3/ADDR11 (out), 10 PB2/ADDR10 (out), 11 PB1/ADDR9 (out), 12 PB0/ADDR8 (out), 13 PE0/AN0 (in), 14 PE4/AN4 (in), 15 PE1/AN1 (in), 16 PE5/AN5 (in), 17 PE2/AN2 (in), 18 PE6/AN6 (in), 19 PE3/AN3 (in), 20 PE7/AN7 (in), 21 VRL (in), 22 VRH (in), 23 VSS (power), 24 VSS (power), 25 MODB/VSTBY (in), 26 NC, 27 MODA/~{LIR} (io), 28 STRA/AS (io), 29 E, 30 STRB/R/~{W} (out), 31 EXTAL, 32 NC, 33 XTAL (out), 34 PC0/ADDR0/DATA0 (io), 35 NC, 36 PC1/ADDR1/DATA1 (io), 37 PC2/ADDR2/DATA2 (io), 38 PC3/ADDR3/DATA3 (io), 39 PC4/ADDR4/DATA4 (io), 40 PC5/ADDR5/DATA5 (io), 41 PC6/ADDR6/DATA6 (io), 42 PC7/ADDR7/DATA7 (io), 43 ~{RESET} (io), 44 NC, 45 ~{XIRQ}/VPPE (in), 46 ~{IRQ} (in), 47 PD0/RXD (io), 48 NC, 49 VSS (power), 50 PD1/TXD (io), 51 PD2/MISO (io), 52 PD3/MOSI (io), 53 PD4/SCK (io), 54 PD5/~{SS} (io), 55 VDD (power), 56 PA7/PAI/OC1 (io), 57 PA6/OC2/OC1 (out), 58 PA5/OC3/OC1 (out), 59 PA4/OC4/OC1 (out), 60 NC, 61 NC, 62 PA3/OC5/IC4/OC1 (io), 63 PA2/IC1 (in), 64 PA1/IC2 (in)

## MC68L11E0PB2
designator U?
8-Bit Microcontroller; Published: 17-Jan-2003; LatestRevisionDate: 13-Apr-2006; LatestRevisionNote: IPC-7351 Footprint Added.; DatasheetVersion: 25-Jul-2002; PackageVersion: rev4, Jul-2002; PackageReference: 848D; Publisher: Altium Limited; PackageDescription: 52-Pin Quad Flat Pack 0.65 mm Pitch; ComponentLink1Description: Manufacturer Link; ComponentLink1URL: http://www.freescale.com/; ComponentLink2Description: Datasheet; ComponentLink2URL: http://www.freescale.com/files/microcontrollers/doc/data_sheet/M68HC11E.pdf
footprint 848D_N (QFP, 52-Leads, Body 10 x 10mm, Pitch 0.65mm, IPC Medium Density)
footprint 848D_L (QFP, 52-Leads, Body 10 x 10mm, Pitch 0.65mm, IPC High Density)
footprint 848D_M (QFP, 52-Leads, Body 10 x 10mm, Pitch 0.65mm, IPC Low Density)
3D model MC68L11-848D (52-Pin Quad Flat Pack 0.65 mm Pitch)
pins: 1 PA0/IC3 (in), 2 PB7/ADDR15 (out), 3 PB6/ADDR14 (out), 4 PB5/ADDR13 (out), 5 PB4/ADDR12 (out), 6 PB3/ADDR11 (out), 7 PB2/ADDR10 (out), 8 PB1/ADDR9 (out), 9 PB0/ADDR8 (out), 10 PE0/AN0 (in), 11 PE4/AN4 (in), 12 PE1/AN1 (in), 13 PE5/AN5 (in), 14 PE2/AN2 (in), 15 PE6/AN6 (in), 16 PE3/AN3 (in), 17 PE7/AN7 (in), 18 VRL (in), 19 VRH (in), 20 VSS (power), 21 MODB/VSTB (in), 22 MODA/~{LIR} (io), 23 STRA/AS (io), 24 E, 25 STRB/R/~{W} (out), 26 EXTAL, 27 XTAL, 28 PC0/ADDR0/DATA0 (io), 29 PC1/ADDR1/DATA1 (io), 30 PC2/ADDR2/DATA2 (io), 31 PC3/ADDR3/DATA3 (io), 32 PC4/ADDR4/DATA4 (io), 33 PC5/ADDR5/DATA5 (io), 34 PC6/ADDR6/DATA6 (io), 35 PC7/ADDR7/DATA7 (io), 36 ~{RESET} (io), 37 ~{XIRQ} (in), 38 ~{IRQ} (in), 39 PD0/RXD (io), 40 PD1/TXD (io), 41 PD2/MISO (io), 42 PD3/MOSI (io), 43 PD4/SCK (io), 44 PD5/~{SS} (io), 45 VDD (power), 46 PA7/PA/OC1 (io), 47 PA6/OC2/OC1 (out), 48 PA5/OC3/OC1 (out), 49 PA4/OC4/OC1 (out), 50 PA3/OC5/IC4/OC1 (io), 51 PA2/IC1 (in), 52 PA1/IC2 (in)

## MC68L11E1B2
designator U?
8-Bit Microcontroller; Published: 17-Jan-2003; LatestRevisionDate: 06-Jun-2005; LatestRevisionNote: Stylized 3D Model Added.; DatasheetVersion: 25-Jul-2002; PackageVersion: rev4, Jul-2002; PackageReference: 859; Publisher: Altium Limited; PackageDescription: DIP; 56 Leads; Row Spacing 15.24 mm; Pitch 1.778 mm; ComponentLink1Description: Manufacturer Link; ComponentLink1URL: http://www.freescale.com/; ComponentLink2Description: Datasheet; ComponentLink2URL: http://www.freescale.com/files/microcontrollers/doc/data_sheet/M68HC11E.pdf
footprint 859 (DIP; 56 Leads; Row Spacing 15.24 mm; Pitch 1.778 mm)
3D model 859-01 (DIP; 56 Leads; Row Spacing 15.24 mm; Pitch 1.778 mm)
pins: 1 VSS (power), 2 MODB/VSTBY (in), 3 MODA/~{LIR} (io), 4 STRA/AS (io), 5 E, 6 STRB/R/~{W} (out), 7 EXTAL, 8 XTAL, 9 PC0/ADDR0/DATA0 (io), 10 PC1/ADDR1/DATA1 (io), 11 PC2/ADDR2/DATA2 (io), 12 PC3/ADDR3/DATA3 (io), 13 PC4/ADDR4/DATA4 (io), 14 PC5/ADDR5/DATA5 (io), 15 PC6/ADDR6/DATA6 (io), 16 PC7/ADDR7/DATA7 (io), 17 ~{RESET} (io), 18 ~{XIRQ}/VPPE (in), 19 ~{IRQ} (in), 20 PD0/RXD (io), 21 EVSS (power), 22 PD1/TXD (io), 23 PD2/MISO (io), 24 PD3/MOSI (io), 25 PD4/SCK (io), 26 PD5/~{SS} (io), 27 VDD (power), 28 VSS (power), 29 EVDD (power), 30 PA7/PAI/OC1 (io), 31 PA6/OC2/OC1 (out), 32 PA5/OC3/OC1 (out), 33 PA4/OC4/OC1 (out), 34 PA3/OC5/IC4/OC1 (io), 35 PA2/IC1 (in), 36 PA1/IC2 (in), 37 PA0/IC3 (in), 38 PB7/ADDR15 (out), 39 PB6/ADDR14 (out), 40 PB5/ADDR13 (out), 41 PB4/ADDR12 (out), 42 PB3/ADDR11 (out), 43 PB2/ADDR10 (out), 44 PB1/ADDR9 (out), 45 PB0/ADDR8 (out), 46 PE0/AN0 (in), 47 PE4/AN4 (in), 48 PE1/AN1 (in), 49 PE5/AN5 (in), 50 PE2/AN2 (in), 51 PE6/AN6 (in), 52 PE3/AN3 (in), 53 PE7/AN7 (in), 54 VRL (in), 55 VRH (in), 56 EVSS (power)

## MC68L11E1FN2
designator U?
8-Bit Microcontroller; Published: 17-Jan-2003; LatestRevisionDate: 13-Apr-2006; LatestRevisionNote: IPC-7351 Footprint Added.; DatasheetVersion: 25-Jul-2002; PackageVersion: rev3, 1997; PackageReference: 778-02; Publisher: Altium Limited; PackageDescription: 52-Pin Plastic Leaded Chip Carrier 1.27 mm Pitch; ComponentLink1Description: Manufacturer Link; ComponentLink1URL: http://www.freescale.com/; ComponentLink2Description: Datasheet; ComponentLink2URL: http://www.freescale.com/files/microcontrollers/doc/data_sheet/M68HC11E.pdf
footprint 778-02_N (Leaded Chip Carrier, 52-Leads, Body 19x19mm, Pitch 1.27mm, IPC Medium Density)
footprint 778-02_L (Leaded Chip Carrier, 52-Leads, Body 19x19mm, Pitch 1.27mm, IPC High Density)
footprint 778-02_M (Leaded Chip Carrier, 52-Leads, Body 19x19mm, Pitch 1.27mm, IPC Low Density)
3D model MC68L11-778-02 (52-Pin Plastic Leaded Chip Carrier 1.27 mm Pitch)
pins: 1 VSS (power), 2 MODB/VSTBY (in), 3 MODA/~{LIR} (io), 4 STRA/AS (io), 5 E, 6 STRB/R/~{W} (out), 7 EXTAL, 8 XTAL, 9 PC0/ADDR0/DATA0 (io), 10 PC1/ADDR1/DATA1 (io), 11 PC2/ADDR2/DATA2 (io), 12 PC3/ADDR3/DATA3 (io), 13 PC4/ADDR4/DATA4 (io), 14 PC5/ADDR5/DATA5 (io), 15 PC6/ADDR6/DATA6 (io), 16 PC7/ADDR7/DATA7 (io), 17 ~{RESET} (io), 18 ~{XIRQ}/VPPE (in), 19 ~{IRQ} (in), 20 PD0/RXD (io), 21 PD1/TXD (io), 22 PD2/MISO (io), 23 PD3/MOSI (io), 24 PD4/SCK (io), 25 PD5/~{SS} (io), 26 VDD (power), 27 PA7/PAI/OC1 (io), 28 PA6/OC2/OC1 (out), 29 PA5/OC3/OC1 (out), 30 PA4/OC4/OC1 (out), 31 PA3/OC5/IC4/OC1 (io), 32 PA2/IC1 (in), 33 PA1/IC2 (in), 34 PA0/IC3 (in), 35 PB7/ADDR15 (out), 36 PB6/ADDR14 (out), 37 PB5/ADDR13 (out), 38 PB4/ADDR12 (out), 39 PB3/ADDR11 (out), 40 PB2/ADDR10 (out), 41 PB1/ADDR9 (out), 42 PB0/ADDR8 (out), 43 PE0/AN0 (in), 44 PE4/AN4 (in), 45 PE1/AN1 (in), 46 PE5/AN5 (in), 47 PE2/AN2 (in), 48 PE6/AN6 (in), 49 PE3/AN3 (in), 50 PE7/AN7 (in), 51 VRL (in), 52 VRH (in)

## MC68L11E1FU2
designator U?
8-Bit Microcontroller; Published: 17-Jan-2003; LatestRevisionDate: 13-Apr-2006; LatestRevisionNote: IPC-7351 Footprint Added.; DatasheetVersion: 25-Jul-2002; PackageVersion: rev4, Jul-2002; PackageReference: 840C; Publisher: Altium Limited; PackageDescription: 64-Pin Quad Flat Pack 0.8 mm Pitch; ComponentLink1Description: Manufacturer Link; ComponentLink1URL: http://www.freescale.com/; ComponentLink2Description: Datasheet; ComponentLink2URL: http://www.freescale.com/files/microcontrollers/doc/data_sheet/M68HC11E.pdf
footprint 840C_N (QFP, 64-Leads, Body 14x14mm, Pitch 0.8mm, IPC Medium Density)
footprint 840C_L (QFP, 64-Leads, Body 14x14mm, Pitch 0.8mm, IPC High Density)
footprint 840C_M (QFP, 64-Leads, Body 14x14mm, Pitch 0.8mm, IPC Low Density)
3D model MC68L11-840C (64-Pin Quad Flat Pack 0.8 mm Pitch)
pins: 1 PA0/IC3 (in), 2 NC, 3 NC, 4 NC, 5 PB7/ADDR15 (out), 6 PB6/ADDR14 (out), 7 PB5/ADDR13 (out), 8 PB4/ADDR12 (out), 9 PB3/ADDR11 (out), 10 PB2/ADDR10 (out), 11 PB1/ADDR9 (out), 12 PB0/ADDR8 (out), 13 PE0/AN0 (in), 14 PE4/AN4 (in), 15 PE1/AN1 (in), 16 PE5/AN5 (in), 17 PE2/AN2 (in), 18 PE6/AN6 (in), 19 PE3/AN3 (in), 20 PE7/AN7 (in), 21 VRL (in), 22 VRH (in), 23 VSS (power), 24 VSS (power), 25 MODB/VSTBY (in), 26 NC, 27 MODA/~{LIR} (io), 28 STRA/AS (io), 29 E, 30 STRB/R/~{W} (out), 31 EXTAL, 32 NC, 33 XTAL (out), 34 PC0/ADDR0/DATA0 (io), 35 NC, 36 PC1/ADDR1/DATA1 (io), 37 PC2/ADDR2/DATA2 (io), 38 PC3/ADDR3/DATA3 (io), 39 PC4/ADDR4/DATA4 (io), 40 PC5/ADDR5/DATA5 (io), 41 PC6/ADDR6/DATA6 (io), 42 PC7/ADDR7/DATA7 (io), 43 ~{RESET} (io), 44 NC, 45 ~{XIRQ}/VPPE (in), 46 ~{IRQ} (in), 47 PD0/RXD (io), 48 NC, 49 VSS (power), 50 PD1/TXD (io), 51 PD2/MISO (io), 52 PD3/MOSI (io), 53 PD4/SCK (io), 54 PD5/~{SS} (io), 55 VDD (power), 56 PA7/PAI/OC1 (io), 57 PA6/OC2/OC1 (out), 58 PA5/OC3/OC1 (out), 59 PA4/OC4/OC1 (out), 60 NC, 61 NC, 62 PA3/OC5/IC4/OC1 (io), 63 PA2/IC1 (in), 64 PA1/IC2 (in)

## MC68L11E1PB2
designator U?
8-Bit Microcontroller; Published: 17-Jan-2003; LatestRevisionDate: 13-Apr-2006; LatestRevisionNote: IPC-7351 Footprint Added.; DatasheetVersion: 25-Jul-2002; PackageVersion: rev4, Jul-2002; PackageReference: 848D; Publisher: Altium Limited; PackageDescription: 52-Pin Quad Flat Pack 0.65 mm Pitch; ComponentLink1Description: Manufacturer Link; ComponentLink1URL: http://www.freescale.com/; ComponentLink2Description: Datasheet; ComponentLink2URL: http://www.freescale.com/files/microcontrollers/doc/data_sheet/M68HC11E.pdf
footprint 848D_N (QFP, 52-Leads, Body 10 x 10mm, Pitch 0.65mm, IPC Medium Density)
footprint 848D_L (QFP, 52-Leads, Body 10 x 10mm, Pitch 0.65mm, IPC High Density)
footprint 848D_M (QFP, 52-Leads, Body 10 x 10mm, Pitch 0.65mm, IPC Low Density)
3D model MC68L11-848D (52-Pin Quad Flat Pack 0.65 mm Pitch)
pins: 1 PA0/IC3 (in), 2 PB7/ADDR15 (out), 3 PB6/ADDR14 (out), 4 PB5/ADDR13 (out), 5 PB4/ADDR12 (out), 6 PB3/ADDR11 (out), 7 PB2/ADDR10 (out), 8 PB1/ADDR9 (out), 9 PB0/ADDR8 (out), 10 PE0/AN0 (in), 11 PE4/AN4 (in), 12 PE1/AN1 (in), 13 PE5/AN5 (in), 14 PE2/AN2 (in), 15 PE6/AN6 (in), 16 PE3/AN3 (in), 17 PE7/AN7 (in), 18 VRL (in), 19 VRH (in), 20 VSS (power), 21 MODB/VSTB (in), 22 MODA/~{LIR} (io), 23 STRA/AS (io), 24 E, 25 STRB/R/~{W} (out), 26 EXTAL, 27 XTAL, 28 PC0/ADDR0/DATA0 (io), 29 PC1/ADDR1/DATA1 (io), 30 PC2/ADDR2/DATA2 (io), 31 PC3/ADDR3/DATA3 (io), 32 PC4/ADDR4/DATA4 (io), 33 PC5/ADDR5/DATA5 (io), 34 PC6/ADDR6/DATA6 (io), 35 PC7/ADDR7/DATA7 (io), 36 ~{RESET} (io), 37 ~{XIRQ}/VPPE (in), 38 ~{IRQ} (in), 39 PD0/RXD (io), 40 PD1/TXD (io), 41 PD2/MISO (io), 42 PD3/MOSI (io), 43 PD4/SCK (io), 44 PD5/~{SS} (io), 45 VDD (power), 46 PA7/PA/OC1 (io), 47 PA6/OC2/OC1 (out), 48 PA5/OC3/OC1 (out), 49 PA4/OC4/OC1 (out), 50 PA3/OC5/IC4/OC1 (io), 51 PA2/IC1 (in), 52 PA1/IC2 (in)

## MC68L11E9B2
designator U?
8-Bit Microcontroller; Published: 17-Jan-2003; LatestRevisionDate: 06-Jun-2005; LatestRevisionNote: Stylized 3D Model Added.; DatasheetVersion: 25-Jul-2002; PackageVersion: rev4, Jul-2002; PackageReference: 859; Publisher: Altium Limited; PackageDescription: DIP; 56 Leads; Row Spacing 15.24 mm; Pitch 1.778 mm; ComponentLink1Description: Manufacturer Link; ComponentLink1URL: http://www.freescale.com/; ComponentLink2Description: Datasheet; ComponentLink2URL: http://www.freescale.com/files/microcontrollers/doc/data_sheet/M68HC11E.pdf
footprint 859 (DIP; 56 Leads; Row Spacing 15.24 mm; Pitch 1.778 mm)
3D model 859-01 (DIP; 56 Leads; Row Spacing 15.24 mm; Pitch 1.778 mm)
pins: 1 VSS (power), 2 MODB/VSTBY (in), 3 MODA/~{LIR} (io), 4 STRA/AS (io), 5 E, 6 STRB/R/~{W} (out), 7 EXTAL, 8 XTAL, 9 PC0/ADDR0/DATA0 (io), 10 PC1/ADDR1/DATA1 (io), 11 PC2/ADDR2/DATA2 (io), 12 PC3/ADDR3/DATA3 (io), 13 PC4/ADDR4/DATA4 (io), 14 PC5/ADDR5/DATA5 (io), 15 PC6/ADDR6/DATA6 (io), 16 PC7/ADDR7/DATA7 (io), 17 ~{RESET} (io), 18 ~{XIRQ}/VPPE (in), 19 ~{IRQ} (in), 20 PD0/RXD (io), 21 EVSS (power), 22 PD1/TXD (io), 23 PD2/MISO (io), 24 PD3/MOSI (io), 25 PD4/SCK (io), 26 PD5/~{SS} (io), 27 VDD (power), 28 VSS (power), 29 EVDD (power), 30 PA7/PAI/OC1 (io), 31 PA6/OC2/OC1 (out), 32 PA5/OC3/OC1 (out), 33 PA4/OC4/OC1 (out), 34 PA3/OC5/IC4/OC1 (io), 35 PA2/IC1 (in), 36 PA1/IC2 (in), 37 PA0/IC3 (in), 38 PB7/ADDR15 (out), 39 PB6/ADDR14 (out), 40 PB5/ADDR13 (out), 41 PB4/ADDR12 (out), 42 PB3/ADDR11 (out), 43 PB2/ADDR10 (out), 44 PB1/ADDR9 (out), 45 PB0/ADDR8 (out), 46 PE0/AN0 (in), 47 PE4/AN4 (in), 48 PE1/AN1 (in), 49 PE5/AN5 (in), 50 PE2/AN2 (in), 51 PE6/AN6 (in), 52 PE3/AN3 (in), 53 PE7/AN7 (in), 54 VRL (in), 55 VRH (in), 56 EVSS (power)

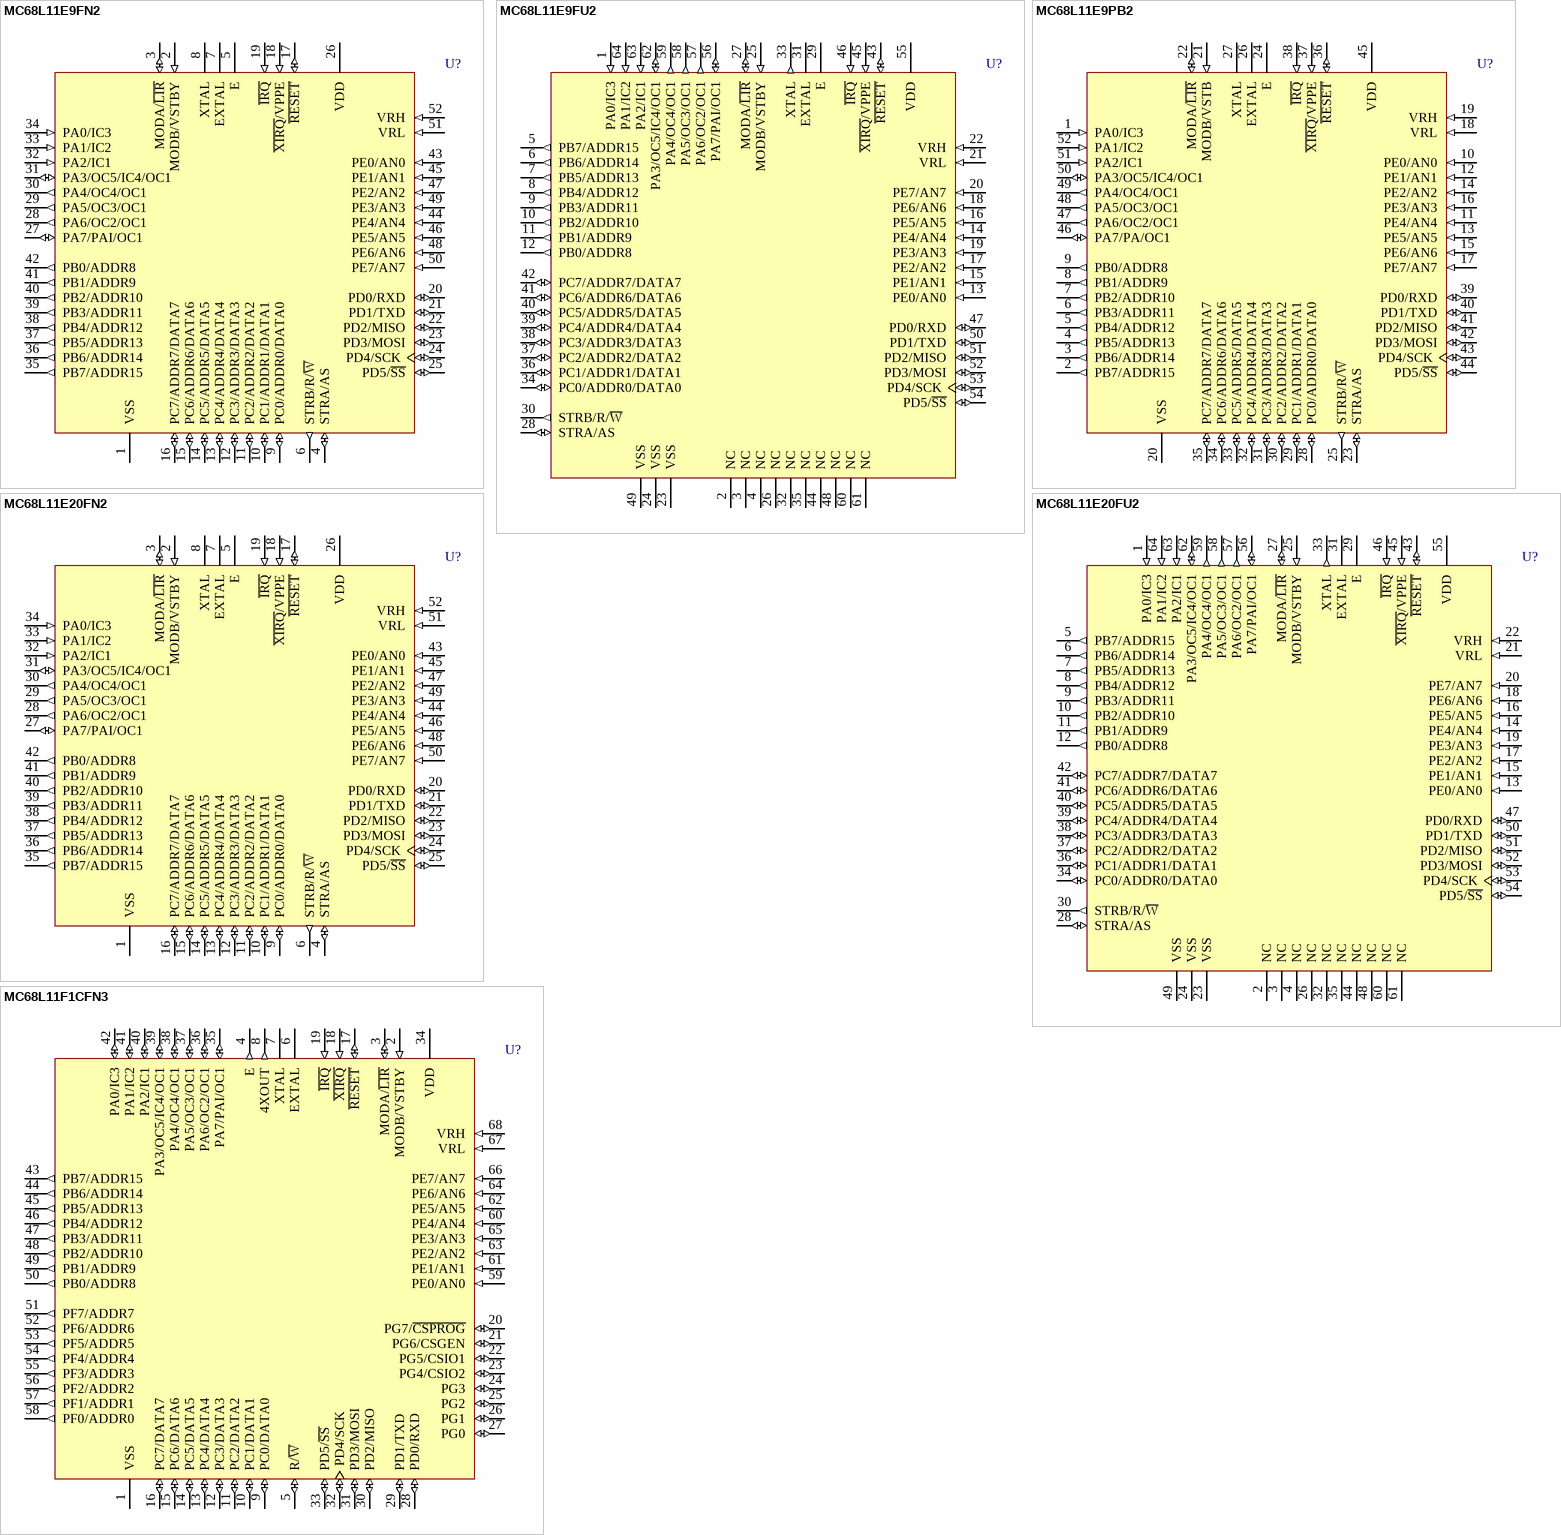
[diagram p104: symbols MC68L11E9FN2 to MC68L11F1CFN3]

## MC68L11E9FN2
designator U?
8-Bit Microcontroller; Published: 17-Jan-2003; LatestRevisionDate: 13-Apr-2006; LatestRevisionNote: IPC-7351 Footprint Added.; DatasheetVersion: 25-Jul-2002; PackageVersion: rev3, 1997; PackageReference: 778-02; Publisher: Altium Limited; PackageDescription: 52-Pin Plastic Leaded Chip Carrier 1.27 mm Pitch; ComponentLink1Description: Manufacturer Link; ComponentLink1URL: http://www.freescale.com/; ComponentLink2Description: Datasheet; ComponentLink2URL: http://www.freescale.com/files/microcontrollers/doc/data_sheet/M68HC11E.pdf
footprint 778-02_N (Leaded Chip Carrier, 52-Leads, Body 19x19mm, Pitch 1.27mm, IPC Medium Density)
footprint 778-02_L (Leaded Chip Carrier, 52-Leads, Body 19x19mm, Pitch 1.27mm, IPC High Density)
footprint 778-02_M (Leaded Chip Carrier, 52-Leads, Body 19x19mm, Pitch 1.27mm, IPC Low Density)
3D model MC68L11-778-02 (52-Pin Plastic Leaded Chip Carrier 1.27 mm Pitch)
pins: 1 VSS (power), 2 MODB/VSTBY (in), 3 MODA/~{LIR} (io), 4 STRA/AS (io), 5 E, 6 STRB/R/~{W} (out), 7 EXTAL, 8 XTAL, 9 PC0/ADDR0/DATA0 (io), 10 PC1/ADDR1/DATA1 (io), 11 PC2/ADDR2/DATA2 (io), 12 PC3/ADDR3/DATA3 (io), 13 PC4/ADDR4/DATA4 (io), 14 PC5/ADDR5/DATA5 (io), 15 PC6/ADDR6/DATA6 (io), 16 PC7/ADDR7/DATA7 (io), 17 ~{RESET} (io), 18 ~{XIRQ}/VPPE (in), 19 ~{IRQ} (in), 20 PD0/RXD (io), 21 PD1/TXD (io), 22 PD2/MISO (io), 23 PD3/MOSI (io), 24 PD4/SCK (io), 25 PD5/~{SS} (io), 26 VDD (power), 27 PA7/PAI/OC1 (io), 28 PA6/OC2/OC1 (out), 29 PA5/OC3/OC1 (out), 30 PA4/OC4/OC1 (out), 31 PA3/OC5/IC4/OC1 (io), 32 PA2/IC1 (in), 33 PA1/IC2 (in), 34 PA0/IC3 (in), 35 PB7/ADDR15 (out), 36 PB6/ADDR14 (out), 37 PB5/ADDR13 (out), 38 PB4/ADDR12 (out), 39 PB3/ADDR11 (out), 40 PB2/ADDR10 (out), 41 PB1/ADDR9 (out), 42 PB0/ADDR8 (out), 43 PE0/AN0 (in), 44 PE4/AN4 (in), 45 PE1/AN1 (in), 46 PE5/AN5 (in), 47 PE2/AN2 (in), 48 PE6/AN6 (in), 49 PE3/AN3 (in), 50 PE7/AN7 (in), 51 VRL (in), 52 VRH (in)

## MC68L11E9FU2
designator U?
8-Bit Microcontroller; Published: 17-Jan-2003; LatestRevisionDate: 13-Apr-2006; LatestRevisionNote: IPC-7351 Footprint Added.; DatasheetVersion: 25-Jul-2002; PackageVersion: rev4, Jul-2002; PackageReference: 840C; Publisher: Altium Limited; PackageDescription: 64-Pin Quad Flat Pack 0.8 mm Pitch; ComponentLink1Description: Manufacturer Link; ComponentLink1URL: http://www.freescale.com/; ComponentLink2Description: Datasheet; ComponentLink2URL: http://www.freescale.com/files/microcontrollers/doc/data_sheet/M68HC11E.pdf
footprint 840C_N (QFP, 64-Leads, Body 14x14mm, Pitch 0.8mm, IPC Medium Density)
footprint 840C_L (QFP, 64-Leads, Body 14x14mm, Pitch 0.8mm, IPC High Density)
footprint 840C_M (QFP, 64-Leads, Body 14x14mm, Pitch 0.8mm, IPC Low Density)
3D model MC68L11-840C (64-Pin Quad Flat Pack 0.8 mm Pitch)
pins: 1 PA0/IC3 (in), 2 NC, 3 NC, 4 NC, 5 PB7/ADDR15 (out), 6 PB6/ADDR14 (out), 7 PB5/ADDR13 (out), 8 PB4/ADDR12 (out), 9 PB3/ADDR11 (out), 10 PB2/ADDR10 (out), 11 PB1/ADDR9 (out), 12 PB0/ADDR8 (out), 13 PE0/AN0 (in), 14 PE4/AN4 (in), 15 PE1/AN1 (in), 16 PE5/AN5 (in), 17 PE2/AN2 (in), 18 PE6/AN6 (in), 19 PE3/AN3 (in), 20 PE7/AN7 (in), 21 VRL (in), 22 VRH (in), 23 VSS (power), 24 VSS (power), 25 MODB/VSTBY (in), 26 NC, 27 MODA/~{LIR} (io), 28 STRA/AS (io), 29 E, 30 STRB/R/~{W} (out), 31 EXTAL, 32 NC, 33 XTAL (out), 34 PC0/ADDR0/DATA0 (io), 35 NC, 36 PC1/ADDR1/DATA1 (io), 37 PC2/ADDR2/DATA2 (io), 38 PC3/ADDR3/DATA3 (io), 39 PC4/ADDR4/DATA4 (io), 40 PC5/ADDR5/DATA5 (io), 41 PC6/ADDR6/DATA6 (io), 42 PC7/ADDR7/DATA7 (io), 43 ~{RESET} (io), 44 NC, 45 ~{XIRQ}/VPPE (in), 46 ~{IRQ} (in), 47 PD0/RXD (io), 48 NC, 49 VSS (power), 50 PD1/TXD (io), 51 PD2/MISO (io), 52 PD3/MOSI (io), 53 PD4/SCK (io), 54 PD5/~{SS} (io), 55 VDD (power), 56 PA7/PAI/OC1 (io), 57 PA6/OC2/OC1 (out), 58 PA5/OC3/OC1 (out), 59 PA4/OC4/OC1 (out), 60 NC, 61 NC, 62 PA3/OC5/IC4/OC1 (io), 63 PA2/IC1 (in), 64 PA1/IC2 (in)

## MC68L11E9PB2
designator U?
8-Bit Microcontroller; Published: 17-Jan-2003; LatestRevisionDate: 13-Apr-2006; LatestRevisionNote: IPC-7351 Footprint Added.; DatasheetVersion: 25-Jul-2002; PackageVersion: rev4, Jul-2002; PackageReference: 848D; Publisher: Altium Limited; PackageDescription: 52-Pin Quad Flat Pack 0.65 mm Pitch; ComponentLink1Description: Manufacturer Link; ComponentLink1URL: http://www.freescale.com/; ComponentLink2Description: Datasheet; ComponentLink2URL: http://www.freescale.com/files/microcontrollers/doc/data_sheet/M68HC11E.pdf
footprint 848D_N (QFP, 52-Leads, Body 10 x 10mm, Pitch 0.65mm, IPC Medium Density)
footprint 848D_L (QFP, 52-Leads, Body 10 x 10mm, Pitch 0.65mm, IPC High Density)
footprint 848D_M (QFP, 52-Leads, Body 10 x 10mm, Pitch 0.65mm, IPC Low Density)
3D model MC68L11-848D (52-Pin Quad Flat Pack 0.65 mm Pitch)
pins: 1 PA0/IC3 (in), 2 PB7/ADDR15 (out), 3 PB6/ADDR14 (out), 4 PB5/ADDR13 (out), 5 PB4/ADDR12 (out), 6 PB3/ADDR11 (out), 7 PB2/ADDR10 (out), 8 PB1/ADDR9 (out), 9 PB0/ADDR8 (out), 10 PE0/AN0 (in), 11 PE4/AN4 (in), 12 PE1/AN1 (in), 13 PE5/AN5 (in), 14 PE2/AN2 (in), 15 PE6/AN6 (in), 16 PE3/AN3 (in), 17 PE7/AN7 (in), 18 VRL (in), 19 VRH (in), 20 VSS (power), 21 MODB/VSTB (in), 22 MODA/~{LIR} (io), 23 STRA/AS (io), 24 E, 25 STRB/R/~{W} (out), 26 EXTAL, 27 XTAL, 28 PC0/ADDR0/DATA0 (io), 29 PC1/ADDR1/DATA1 (io), 30 PC2/ADDR2/DATA2 (io), 31 PC3/ADDR3/DATA3 (io), 32 PC4/ADDR4/DATA4 (io), 33 PC5/ADDR5/DATA5 (io), 34 PC6/ADDR6/DATA6 (io), 35 PC7/ADDR7/DATA7 (io), 36 ~{RESET} (io), 37 ~{XIRQ}/VPPE (in), 38 ~{IRQ} (in), 39 PD0/RXD (io), 40 PD1/TXD (io), 41 PD2/MISO (io), 42 PD3/MOSI (io), 43 PD4/SCK (io), 44 PD5/~{SS} (io), 45 VDD (power), 46 PA7/PA/OC1 (io), 47 PA6/OC2/OC1 (out), 48 PA5/OC3/OC1 (out), 49 PA4/OC4/OC1 (out), 50 PA3/OC5/IC4/OC1 (io), 51 PA2/IC1 (in), 52 PA1/IC2 (in)

## MC68L11E20FN2
designator U?
8-Bit Microcontroller; Published: 17-Jan-2003; LatestRevisionDate: 13-Apr-2006; LatestRevisionNote: IPC-7351 Footprint Added.; DatasheetVersion: 25-Jul-2002; PackageVersion: rev3, 1997; PackageReference: 778-02; Publisher: Altium Limited; PackageDescription: 52-Pin Plastic Leaded Chip Carrier 1.27 mm Pitch; ComponentLink1Description: Manufacturer Link; ComponentLink1URL: http://www.freescale.com/; ComponentLink2Description: Datasheet; ComponentLink2URL: http://www.freescale.com/files/microcontrollers/doc/data_sheet/M68HC11E.pdf
footprint 778-02_N (Leaded Chip Carrier, 52-Leads, Body 19x19mm, Pitch 1.27mm, IPC Medium Density)
footprint 778-02_L (Leaded Chip Carrier, 52-Leads, Body 19x19mm, Pitch 1.27mm, IPC High Density)
footprint 778-02_M (Leaded Chip Carrier, 52-Leads, Body 19x19mm, Pitch 1.27mm, IPC Low Density)
3D model MC68L11-778-02 (52-Pin Plastic Leaded Chip Carrier 1.27 mm Pitch)
pins: 1 VSS (power), 2 MODB/VSTBY (in), 3 MODA/~{LIR} (io), 4 STRA/AS (io), 5 E, 6 STRB/R/~{W} (out), 7 EXTAL, 8 XTAL, 9 PC0/ADDR0/DATA0 (io), 10 PC1/ADDR1/DATA1 (io), 11 PC2/ADDR2/DATA2 (io), 12 PC3/ADDR3/DATA3 (io), 13 PC4/ADDR4/DATA4 (io), 14 PC5/ADDR5/DATA5 (io), 15 PC6/ADDR6/DATA6 (io), 16 PC7/ADDR7/DATA7 (io), 17 ~{RESET} (io), 18 ~{XIRQ}/VPPE (in), 19 ~{IRQ} (in), 20 PD0/RXD (io), 21 PD1/TXD (io), 22 PD2/MISO (io), 23 PD3/MOSI (io), 24 PD4/SCK (io), 25 PD5/~{SS} (io), 26 VDD (power), 27 PA7/PAI/OC1 (io), 28 PA6/OC2/OC1 (out), 29 PA5/OC3/OC1 (out), 30 PA4/OC4/OC1 (out), 31 PA3/OC5/IC4/OC1 (io), 32 PA2/IC1 (in), 33 PA1/IC2 (in), 34 PA0/IC3 (in), 35 PB7/ADDR15 (out), 36 PB6/ADDR14 (out), 37 PB5/ADDR13 (out), 38 PB4/ADDR12 (out), 39 PB3/ADDR11 (out), 40 PB2/ADDR10 (out), 41 PB1/ADDR9 (out), 42 PB0/ADDR8 (out), 43 PE0/AN0 (in), 44 PE4/AN4 (in), 45 PE1/AN1 (in), 46 PE5/AN5 (in), 47 PE2/AN2 (in), 48 PE6/AN6 (in), 49 PE3/AN3 (in), 50 PE7/AN7 (in), 51 VRL (in), 52 VRH (in)